# Altium integrated library AMCC PowerPC 405.IntLib: 46 symbols (part 7 of 12)
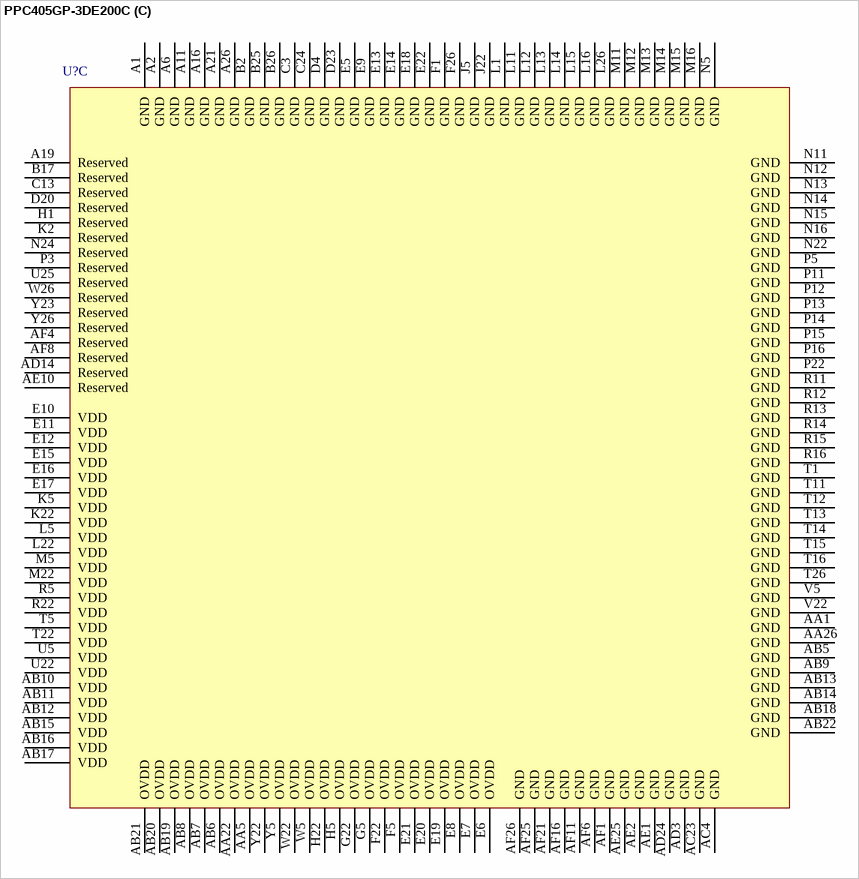
[diagram p124: symbol PPC405GP-3DE200C]

## PPC405GP-3DE200C
designator U?
PowerPC 405GP Embedded Processor, 200MHz, 27mm, 456 Ball E-PBGA; Published: 6-Oct-2005; LatestRevisionDate: 13-Apr-2006; LatestRevisionNote: IPC-7351 Footprint Added.; DatasheetVersion: rev2.01, Jan-2005; PackageVersion: Aug-2005; PackageReference: E-PBGA456_60; Publisher: Altium Limited; PackageDescription: 456-Ball Enhanced Plastic Ball Grid Array; ComponentLink1Description: Manufacturer Link; ComponentLink1URL: http://www.amcc.com/; ComponentLink2Description: Datasheet; ComponentLink2URL: https://www.amcc.com/MyAMCC/retrieveDocument/PowerPC/405GP_GPR/PPC405GP_DS2004__v2_01.pdf
footprint E-PBGA456_60 (BGA, 456-Leads, Body 27x27mm, Pitch 1mm)
3D model PPC405GP-E-PBGA456 (456-Ball Enhanced Plastic Ball Grid Array)
part A pins: A17 PCIAD0 (io), A18 PCIAD3 (io), A20 PCIAD7 (io), A22 GPIO3[TS1O] (io), A23 PCIAD9 (io), A24 ~{PCIReq}3 (in), A25 SysClk (in), AA2 MemData23 (io), AA3 DQM3 (out), AA4 MemData22 (io), AA23 MemClkOut1 (out), AB1 MemData24 (io), AB2 MemData21 (io), AB23 ~{CAS} (out), AB24 BA0 (out), AB25 ClkEn0 (out), AB26 ~{Halt} (in), AC5 MemData19 (io), AC6 DQM2 (out), AC8 MemData12 (io), AC10 DQM1 (out), AC11 MemData3 (io), AC12 DQM0 (out), AC13 MemData0 (io), AC14 ~{BankSel}3 (out), AC15 DQMCB (out), AC16 ~{WE} (out), AC17 MemAddr12 (out), AC18 MemAddr9 (out), AC19 MemAddr6 (out), AC21 MemAddr1 (out), AC22 TMS (in), AC24 BA1 (out), AC25 ClkEn1 (out), AC26 MemClkOut0 (out), AD1 MemData20 (io), AD4 MemData18 (io), AD5 MemData17 (io), AD7 MemData13 (io), AD8 MemData10 (io), AD9 MemData8 (io), AD10 MemData6 (io), AD11 MemData2 (io), AD12 ECC7 (io), AD13 ECC3 (io), AD17 ~{BankSel}0 (out), AD18 MemAddr11 (out), AD19 MemAddr8 (out), AD21 MemAddr3 (out), AD22 TCK (in), AD23 TDO (out), AD25 SysErr (out), AE4 MemData16 (io), AE5 MemData15 (io), AE6 MemData14 (io), AE9 MemData9 (io), AE11 MemData5 (io), AE12 MemData1 (io), AE13 ECC6 (io), AE14 ECC0 (io), AE15 ~{BankSel}2 (out), AE19 MemAddr7 (out), AE20 MemAddr5 (out), AE21 MemAddr2 (out), AE22 MemAddr0 (out), AE24 TDI (in), AE26 ~{TRS}T (in), AF7 MemData11 (io), AF9 MemData7 (io), AF10 MemData4 (io), AF12 ECC5 (io), AF13 ECC4 (io), AF14 ECC2 (io), AF15 ECC1 (io), AF17 ~{BankSel}1 (out), AF18 GPIO4[TS2O] (io), AF19 MemAddr10 (out), AF22 MemAddr4 (out), AF24 ~{RAS} (out), B16 PCIAD1 (io), B18 PCIAD6 (io), B19 PCIReq2 (in), B20 PCIClk (in), B21 PCIAD8 (io), B22 PCIAD11 (io), B23 PCIAD12 (io), B24 ~{PCIRese}t (out), C17 PCIAD2 (io), C18 PCIAD5 (io), C19 ~{PCIReq}0[~{Gnt}] (in), C20 GPIO2[TS2E] (io), C21 ~{PCIReq}1 (in), C22 PCIAD13 (io), C23 ~{PCIINT}[PerWE] (out), C25 RcvrInh (in), C26 PCIAD14 (io), D17 PCIAD4 (io), D18 GPIO1[TS1E] (io), D19 PCIC0[~{BE0}] (io), D21 PCIAD10 (io), D22 ~{SysRese}t (io), D24 TmrClk (in), D25 AVDD (in), D26 ~{TestEn} (in), E23 DrvrInh2 (in), E24 DrvrInh1 (in), E26 PCIParity (io), F23 ~{PCIGnt2} (out), F24 PCIC1[~{BE1}] (io), F25 PCIAD15 (io), G23 ~{PCIReq}4 (in), G24 ~{PCISErr} (io), G25 ~{PCIPEr}r (io), G26 ~{PCITRDY} (io), H23 ~{PCISto}p (io), H25 ~{PCIDevSe}l (io), H26 ~{PCIGnt}3 (out), J23 ~{PCIIRD}Y (io), J24 ~{PCIFram}e (io), J25 ~{PCIReq5} (in), K24 PCIC2[~{BE2}] (io), K26 PCIAD16 (io), L23 PCIAD17 (io), M23 PCIAD19 (io), M24 ~{PCIGnt}5 (out), M25 PCIAD18 (io), M26 PCIAD21 (io), N23 ~{PCIGnt}4 (out), N25 PCIAD20 (io), N26 PCIAD22 (io), P23 PCIAD26 (io), P24 PCIAD23 (io), P26 PCIIDSel (in), R23 PCIAD25 (io), R24 PCIAD24 (io), R25 PCIAD27 (io), R26 PCIC3[~{BE3}] (io), T23 ~{PCIGnt1} (out), T24 PCIAD28 (io), T25 PCIAD30 (io), U23 ~{PCIGnt0}[~{Re}q] (out), U26 PCIAD29 (io), V3 MemData31 (io), V4 MemData29 (io), V26 PCIAD31 (io), W1 MemData30 (io), W2 MemData27 (io), W3 MemData28 (io), W4 MemData26 (io), Y2 MemData25 (io)
part B pins: A3 PerAddr1 (io), A4 ~{PerCS3}[GPIO12] (io), A5 PerAddr8 (io), A7 DMAReq3 (in), A8 PerAddr15 (io), A9 ~{PerCS6}[GPIO15] (io), A10 PerAddr19 (io), A12 PerAddr25 (io), A13 PerAddr26 (io), A14 PerAddr28 (io), A15 PerAddr29 (io), AA24 IRQ6[GPIO23] (io), AA25 PHYCol (in), AB3 GPIO9[TrcClk] (io), AB4 ~{UART0}_~{CTS} (in), AC1 UART1_Rx (in), AC2 UART1_Tx (out), AC3 ~{UART1_CT}S/~{UART1}_~{DS}R (in), AC7 GPIO8[TS6] (io), AC9 GPIO5[TS3] (io), AC20 PHYRxD2 (in), AD2 ~{UART1_DT}R/~{UART1}_~{RT}S (out), AD6 IICSCL (io), AD15 ~{UART0_R}I (in), AD16 ~{UART0_RT}S (out), AD20 PHYRxD3 (in), AD26 EMCMDIO[PHYMDIO] (io), AE3 ~{UART0_DS}R (in), AE7 IICSDA (io), AE8 GPIO6[TS4] (io), AE16 UART0_Rx (in), AE17 UARTSerClk (in), AE18 ~{UART0}_~{DC}D (in), AE23 PHYRxD0 (in), AF2 ~{UART0_DT}R (out), AF3 UART0_Tx (out), AF5 GPIO7[TS5] (io), AF20 PHYRxClk (in), AF23 PHYRxD1 (in), B1 PerErr (in), B3 ~{PerCS}0 (out), B4 PerAddr2 (io), B5 PerAddr3 (io), B6 PerAddr5 (io), B7 PerAddr9 (io), B8 PerAddr12 (io), B9 ~{PerCS}4[GPIO13] (io), B10 ~{PerCS5}[GPIO14] (io), B11 ~{PerCS7}[GPIO16] (io), B12 PerAddr21 (io), B13 PerAddr24 (io), B14 DMAAck2 (out), B15 DMAAck1 (out), C1 PerR/~{W} (io), C2 ~{PerOE} (out), C4 ~{PerCS}1[GPIO10] (io), C5 ~{PerCS}2[GPIO11] (io), C6 PerAddr6 (io), C7 PerAddr10 (io), C8 PerAddr13 (io), C9 PerAddr16 (io), C10 PerAddr18 (io), C11 DMAReq2 (in), C12 DMAAck3 (out), C14 PerAddr27 (io), C15 PerAddr30 (io), C16 DMAReq0 (in), D1 ~{PerWBE}3 (io), D2 ~{PerWBE}0 (io), D3 PerPar0 (io), D5 PerAddr0 (io), D6 PerAddr4 (io), D7 PerAddr7 (io), D8 PerAddr11 (io), D9 PerAddr14 (io), D10 PerAddr17 (io), D11 PerAddr20 (io), D12 PerAddr23 (io), D13 PerAddr22 (io), D14 DMAReq1 (in), D15 PerAddr31 (io), D16 DMAAck0 (out), E1 PerPar3 (io), E2 ~{PerWBE1} (io), E3 PerReady (in), E4 PerClk (out), E25 PHYTxClk (in), F2 ~{PerBLast} (io), F3 EOT0/TC0 (io), F4 ~{PerWBE}2 (io), G1 PerData29 (io), G2 EOT1/TC1 (io), G3 PerPar2 (io), G4 PerPar1 (io), H2 PerData30 (io), H3 PerData28 (io), H4 PerData31 (io), H24 EMCMDClk (out), J1 PerData23 (io), J2 PerData26 (io), J3 PerData25 (io), J4 PerData27 (io), J26 EMCTxD0 (out), K1 PerData20 (io), K3 PerData22 (io), K4 PerData24 (io), K23 EMCTxEn (out), K25 EMCTxErr (out), L2 PerData21 (io), L3 PerData18 (io), L4 PerData19 (io), L24 EMCTxD2 (out), L25 EMCTxD1 (out), M1 PerData12 (io), M2 PerData17 (io), M3 PerData14 (io), M4 PerData15 (io), N1 PerData11 (io), N2 PerData13 (io), N3 PerData10 (io), N4 PerData16 (io), P1 PerData9 (io), P2 PerData7 (io), P4 PerData5 (io), P25 EMCTxD3 (out), R1 PerData8 (io), R2 PerData4 (io), R3 BusReq (out), R4 PerData6 (io), T2 HoldPri (in), T3 ~{ExtRese}t (out), T4 PerData3 (io), U1 PerData2 (io), U2 HoldAck (out), U3 PerData1 (io), U4 PerData0 (io), U24 PHYRxErr (in), V1 HoldReq (in), V2 EOT2/TC2 (io), V23 IRQ1[GPIO18] (io), V24 PHYRxDV (in), V25 IRQ0[GPIO17] (io), W23 PHYCrS (in), W24 IRQ2[GPIO19] (io), W25 IRQ3[GPIO20] (io), Y1 EOT3/TC3 (io), Y3 ~{ExtAck} (out), Y4 ~{ExtReq} (in), Y24 IRQ4[GPIO21] (io), Y25 IRQ5[GPIO22] (io)
part C pins: A1 GND (power), A2 GND (power), A6 GND (power), A11 GND (power), A16 GND (power), A19 Reserved, A21 GND (power), A26 GND (power), AA1 GND (power), AA5 OVDD (power), AA22 OVDD (power), AA26 GND (power), AB5 GND (power), AB6 OVDD (power), AB7 OVDD (power), AB8 OVDD (power), AB9 GND (power), AB10 VDD (power), AB11 VDD (power), AB12 VDD (power), AB13 GND (power), AB14 GND (power), AB15 VDD (power), AB16 VDD (power), AB17 VDD (power), AB18 GND (power), AB19 OVDD (power), AB20 OVDD (power), AB21 OVDD (power), AB22 GND (power), AC4 GND (power), AC23 GND (power), AD3 GND (power), AD14 Reserved, AD24 GND (power), AE1 GND (power), AE2 GND (power), AE10 Reserved, AE25 GND (power), AF1 GND (power), AF4 Reserved, AF6 GND (power), AF8 Reserved, AF11 GND (power), AF16 GND (power), AF21 GND (power), AF25 GND (power), AF26 GND (power), B2 GND (power), B17 Reserved, B25 GND (power), B26 GND (power), C3 GND (power), C13 Reserved, C24 GND (power), D4 GND (power), D20 Reserved, D23 GND (power), E5 GND (power), E6 OVDD (power), E7 OVDD (power), E8 OVDD (power), E9 GND (power), E10 VDD (power), E11 VDD (power), E12 VDD (power), E13 GND (power), E14 GND (power), E15 VDD (power), E16 VDD (power), E17 VDD (power), E18 GND (power), E19 OVDD (power), E20 OVDD (power), E21 OVDD (power), E22 GND (power), F1 GND (power), F5 OVDD (power), F22 OVDD (power), F26 GND (power), G5 OVDD (power), G22 OVDD (power), H1 Reserved, H5 OVDD (power), H22 OVDD (power), J5 GND (power), J22 GND (power), K2 Reserved, K5 VDD (power), K22 VDD (power), L1 GND (power), L5 VDD (power), L11 GND (power) "Thermal Balls", L12 GND (power) "Thermal Balls", L13 GND (power) "Thermal Balls", L14 GND (power) "Thermal Balls", L15 GND (power) "Thermal Balls", L16 GND (power) "Thermal Balls", L22 VDD (power), L26 GND (power), M5 VDD (power), M11 GND (power) "Thermal Balls", M12 GND (power) "Thermal Balls", M13 GND (power) "Thermal Balls", M14 GND (power) "Thermal Balls", M15 GND (power) "Thermal Balls", M16 GND (power) "Thermal Balls", M22 VDD (power), N5 GND (power), N11 GND (power) "Thermal Balls", N12 GND (power) "Thermal Balls", N13 GND (power) "Thermal Balls", N14 GND (power) "Thermal Balls", N15 GND (power) "Thermal Balls", N16 GND (power) "Thermal Balls", N22 GND (power), N24 Reserved, P3 Reserved, P5 GND (power), P11 GND (power) "Thermal Balls", P12 GND (power) "Thermal Balls", P13 GND (power) "Thermal Balls", P14 GND (power) "Thermal Balls", P15 GND (power) "Thermal Balls", P16 GND (power) "Thermal Balls", P22 GND (power), R5 VDD (power), R11 GND (power) "Thermal Balls", R12 GND (power) "Thermal Balls", R13 GND (power) "Thermal Balls", R14 GND (power) "Thermal Balls", R15 GND (power) "Thermal Balls", R16 GND (power) "Thermal Balls", R22 VDD (power), T1 GND (power), T5 VDD (power), T11 GND (power) "Thermal Balls", T12 GND (power) "Thermal Balls", T13 GND (power) "Thermal Balls", T14 GND (power) "Thermal Balls", T15 GND (power) "Thermal Balls", T16 GND (power) "Thermal Balls", T22 VDD (power), T26 GND (power), U5 VDD (power), U22 VDD (power), U25 Reserved, V5 GND (power), V22 GND (power), W5 OVDD (power), W22 OVDD (power), W26 Reserved, Y5 OVDD (power), Y22 OVDD (power), Y23 Reserved, Y26 Reserved

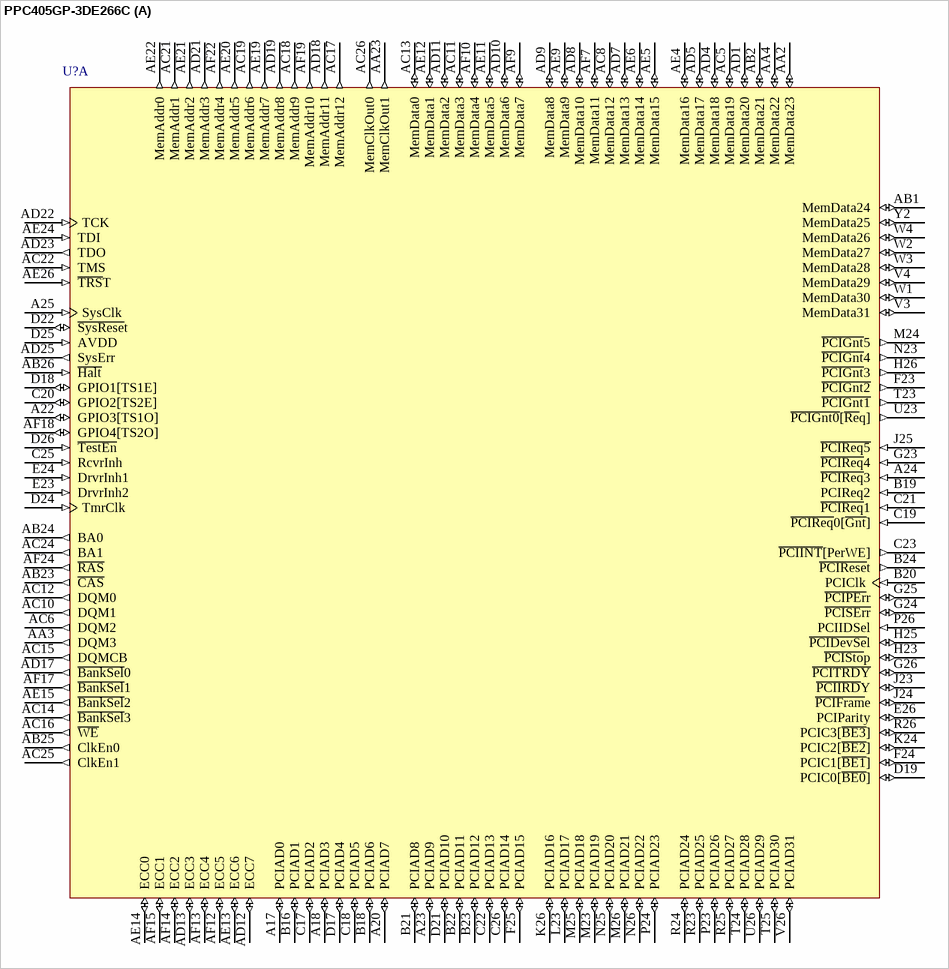
[diagram p56: symbol PPC405GP-3DE266C]

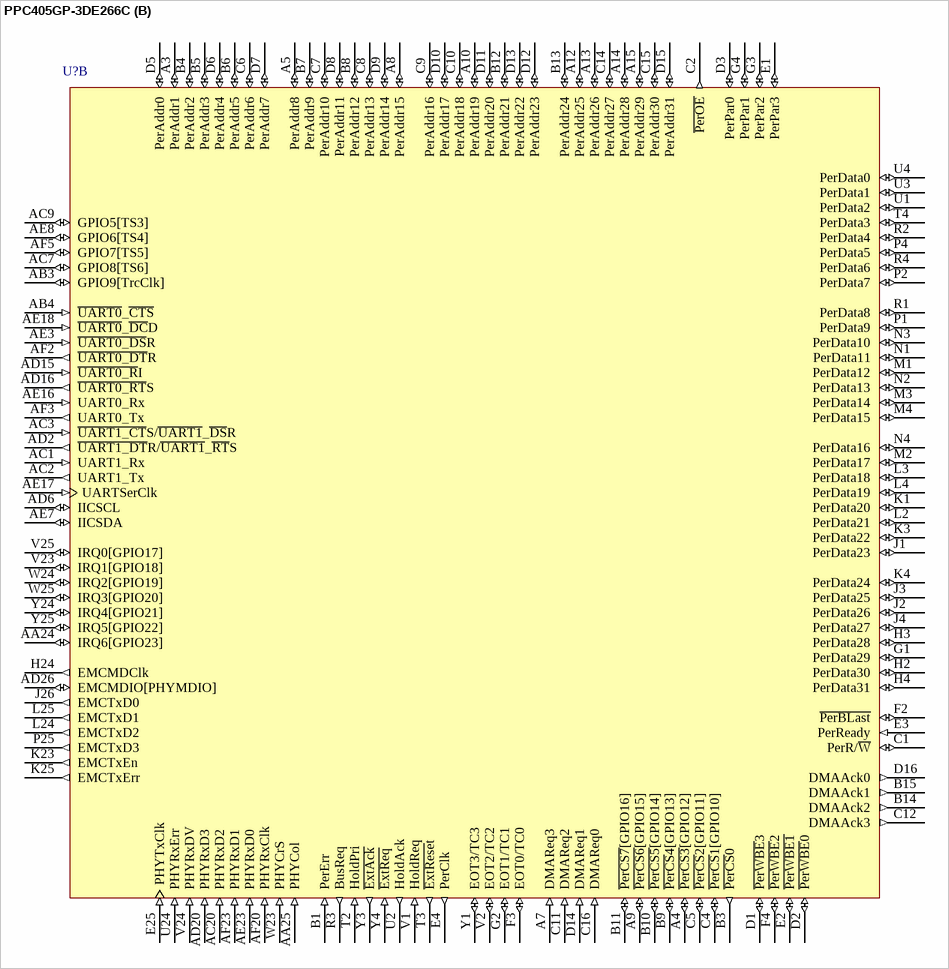
[diagram p57: symbol PPC405GP-3DE266C]

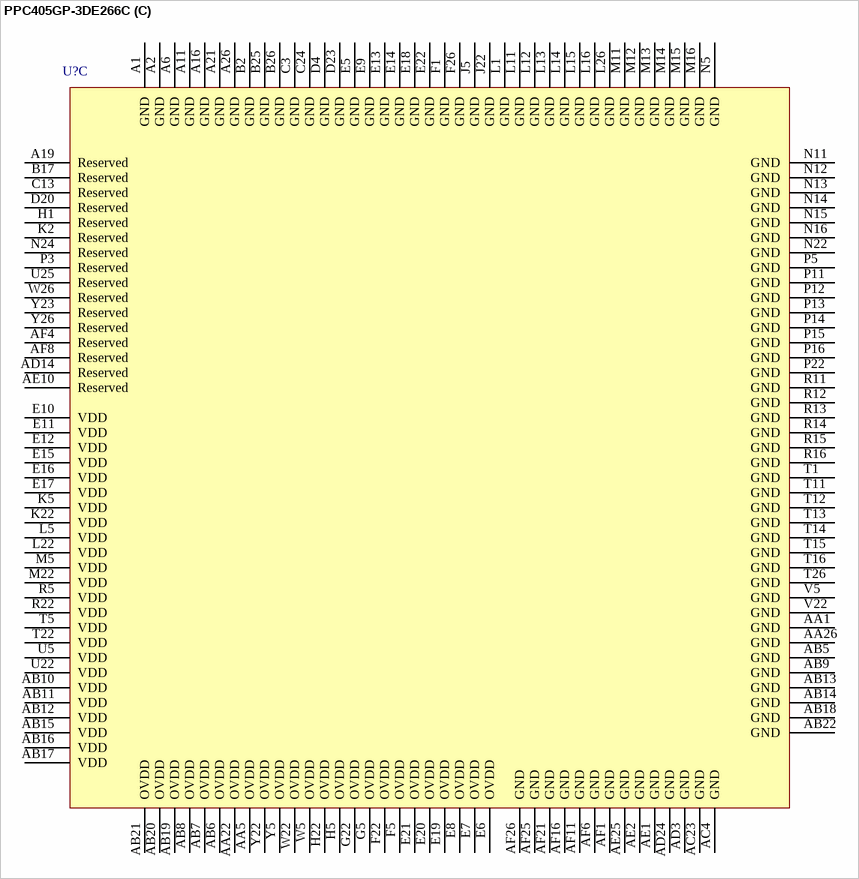
[diagram p58: symbol PPC405GP-3DE266C]

## PPC405GP-3DE266C
designator U?
PowerPC 405GP Embedded Processor, 266MHz, 27mm, 456 Ball E-PBGA; Published: 6-Oct-2005; LatestRevisionDate: 13-Apr-2006; LatestRevisionNote: IPC-7351 Footprint Added.; DatasheetVersion: rev2.01, Jan-2005; PackageVersion: Aug-2005; PackageReference: E-PBGA456_60; Publisher: Altium Limited; PackageDescription: 456-Ball Enhanced Plastic Ball Grid Array; ComponentLink1Description: Manufacturer Link; ComponentLink1URL: http://www.amcc.com/; ComponentLink2Description: Datasheet; ComponentLink2URL: https://www.amcc.com/MyAMCC/retrieveDocument/PowerPC/405GP_GPR/PPC405GP_DS2004__v2_01.pdf
footprint E-PBGA456_60 (BGA, 456-Leads, Body 27x27mm, Pitch 1mm)
3D model PPC405GP-E-PBGA456 (456-Ball Enhanced Plastic Ball Grid Array)
part A pins: A17 PCIAD0 (io), A18 PCIAD3 (io), A20 PCIAD7 (io), A22 GPIO3[TS1O] (io), A23 PCIAD9 (io), A24 ~{PCIReq}3 (in), A25 SysClk (in), AA2 MemData23 (io), AA3 DQM3 (out), AA4 MemData22 (io), AA23 MemClkOut1 (out), AB1 MemData24 (io), AB2 MemData21 (io), AB23 ~{CAS} (out), AB24 BA0 (out), AB25 ClkEn0 (out), AB26 ~{Halt} (in), AC5 MemData19 (io), AC6 DQM2 (out), AC8 MemData12 (io), AC10 DQM1 (out), AC11 MemData3 (io), AC12 DQM0 (out), AC13 MemData0 (io), AC14 ~{BankSel}3 (out), AC15 DQMCB (out), AC16 ~{WE} (out), AC17 MemAddr12 (out), AC18 MemAddr9 (out), AC19 MemAddr6 (out), AC21 MemAddr1 (out), AC22 TMS (in), AC24 BA1 (out), AC25 ClkEn1 (out), AC26 MemClkOut0 (out), AD1 MemData20 (io), AD4 MemData18 (io), AD5 MemData17 (io), AD7 MemData13 (io), AD8 MemData10 (io), AD9 MemData8 (io), AD10 MemData6 (io), AD11 MemData2 (io), AD12 ECC7 (io), AD13 ECC3 (io), AD17 ~{BankSel}0 (out), AD18 MemAddr11 (out), AD19 MemAddr8 (out), AD21 MemAddr3 (out), AD22 TCK (in), AD23 TDO (out), AD25 SysErr (out), AE4 MemData16 (io), AE5 MemData15 (io), AE6 MemData14 (io), AE9 MemData9 (io), AE11 MemData5 (io), AE12 MemData1 (io), AE13 ECC6 (io), AE14 ECC0 (io), AE15 ~{BankSel}2 (out), AE19 MemAddr7 (out), AE20 MemAddr5 (out), AE21 MemAddr2 (out), AE22 MemAddr0 (out), AE24 TDI (in), AE26 ~{TRS}T (in), AF7 MemData11 (io), AF9 MemData7 (io), AF10 MemData4 (io), AF12 ECC5 (io), AF13 ECC4 (io), AF14 ECC2 (io), AF15 ECC1 (io), AF17 ~{BankSel}1 (out), AF18 GPIO4[TS2O] (io), AF19 MemAddr10 (out), AF22 MemAddr4 (out), AF24 ~{RAS} (out), B16 PCIAD1 (io), B18 PCIAD6 (io), B19 PCIReq2 (in), B20 PCIClk (in), B21 PCIAD8 (io), B22 PCIAD11 (io), B23 PCIAD12 (io), B24 ~{PCIRese}t (out), C17 PCIAD2 (io), C18 PCIAD5 (io), C19 ~{PCIReq}0[~{Gnt}] (in), C20 GPIO2[TS2E] (io), C21 ~{PCIReq}1 (in), C22 PCIAD13 (io), C23 ~{PCIINT}[PerWE] (out), C25 RcvrInh (in), C26 PCIAD14 (io), D17 PCIAD4 (io), D18 GPIO1[TS1E] (io), D19 PCIC0[~{BE0}] (io), D21 PCIAD10 (io), D22 ~{SysRese}t (io), D24 TmrClk (in), D25 AVDD (in), D26 ~{TestEn} (in), E23 DrvrInh2 (in), E24 DrvrInh1 (in), E26 PCIParity (io), F23 ~{PCIGnt2} (out), F24 PCIC1[~{BE1}] (io), F25 PCIAD15 (io), G23 ~{PCIReq}4 (in), G24 ~{PCISErr} (io), G25 ~{PCIPEr}r (io), G26 ~{PCITRDY} (io), H23 ~{PCISto}p (io), H25 ~{PCIDevSe}l (io), H26 ~{PCIGnt}3 (out), J23 ~{PCIIRD}Y (io), J24 ~{PCIFram}e (io), J25 ~{PCIReq5} (in), K24 PCIC2[~{BE2}] (io), K26 PCIAD16 (io), L23 PCIAD17 (io), M23 PCIAD19 (io), M24 ~{PCIGnt}5 (out), M25 PCIAD18 (io), M26 PCIAD21 (io), N23 ~{PCIGnt}4 (out), N25 PCIAD20 (io), N26 PCIAD22 (io), P23 PCIAD26 (io), P24 PCIAD23 (io), P26 PCIIDSel (in), R23 PCIAD25 (io), R24 PCIAD24 (io), R25 PCIAD27 (io), R26 PCIC3[~{BE3}] (io), T23 ~{PCIGnt1} (out), T24 PCIAD28 (io), T25 PCIAD30 (io), U23 ~{PCIGnt0}[~{Re}q] (out), U26 PCIAD29 (io), V3 MemData31 (io), V4 MemData29 (io), V26 PCIAD31 (io), W1 MemData30 (io), W2 MemData27 (io), W3 MemData28 (io), W4 MemData26 (io), Y2 MemData25 (io)
part B pins: A3 PerAddr1 (io), A4 ~{PerCS3}[GPIO12] (io), A5 PerAddr8 (io), A7 DMAReq3 (in), A8 PerAddr15 (io), A9 ~{PerCS6}[GPIO15] (io), A10 PerAddr19 (io), A12 PerAddr25 (io), A13 PerAddr26 (io), A14 PerAddr28 (io), A15 PerAddr29 (io), AA24 IRQ6[GPIO23] (io), AA25 PHYCol (in), AB3 GPIO9[TrcClk] (io), AB4 ~{UART0}_~{CTS} (in), AC1 UART1_Rx (in), AC2 UART1_Tx (out), AC3 ~{UART1_CT}S/~{UART1}_~{DS}R (in), AC7 GPIO8[TS6] (io), AC9 GPIO5[TS3] (io), AC20 PHYRxD2 (in), AD2 ~{UART1_DT}R/~{UART1}_~{RT}S (out), AD6 IICSCL (io), AD15 ~{UART0_R}I (in), AD16 ~{UART0_RT}S (out), AD20 PHYRxD3 (in), AD26 EMCMDIO[PHYMDIO] (io), AE3 ~{UART0_DS}R (in), AE7 IICSDA (io), AE8 GPIO6[TS4] (io), AE16 UART0_Rx (in), AE17 UARTSerClk (in), AE18 ~{UART0}_~{DC}D (in), AE23 PHYRxD0 (in), AF2 ~{UART0_DT}R (out), AF3 UART0_Tx (out), AF5 GPIO7[TS5] (io), AF20 PHYRxClk (in), AF23 PHYRxD1 (in), B1 PerErr (in), B3 ~{PerCS}0 (out), B4 PerAddr2 (io), B5 PerAddr3 (io), B6 PerAddr5 (io), B7 PerAddr9 (io), B8 PerAddr12 (io), B9 ~{PerCS}4[GPIO13] (io), B10 ~{PerCS5}[GPIO14] (io), B11 ~{PerCS7}[GPIO16] (io), B12 PerAddr21 (io), B13 PerAddr24 (io), B14 DMAAck2 (out), B15 DMAAck1 (out), C1 PerR/~{W} (io), C2 ~{PerOE} (out), C4 ~{PerCS}1[GPIO10] (io), C5 ~{PerCS}2[GPIO11] (io), C6 PerAddr6 (io), C7 PerAddr10 (io), C8 PerAddr13 (io), C9 PerAddr16 (io), C10 PerAddr18 (io), C11 DMAReq2 (in), C12 DMAAck3 (out), C14 PerAddr27 (io), C15 PerAddr30 (io), C16 DMAReq0 (in), D1 ~{PerWBE}3 (io), D2 ~{PerWBE}0 (io), D3 PerPar0 (io), D5 PerAddr0 (io), D6 PerAddr4 (io), D7 PerAddr7 (io), D8 PerAddr11 (io), D9 PerAddr14 (io), D10 PerAddr17 (io), D11 PerAddr20 (io), D12 PerAddr23 (io), D13 PerAddr22 (io), D14 DMAReq1 (in), D15 PerAddr31 (io), D16 DMAAck0 (out), E1 PerPar3 (io), E2 ~{PerWBE1} (io), E3 PerReady (in), E4 PerClk (out), E25 PHYTxClk (in), F2 ~{PerBLast} (io), F3 EOT0/TC0 (io), F4 ~{PerWBE}2 (io), G1 PerData29 (io), G2 EOT1/TC1 (io), G3 PerPar2 (io), G4 PerPar1 (io), H2 PerData30 (io), H3 PerData28 (io), H4 PerData31 (io), H24 EMCMDClk (out), J1 PerData23 (io), J2 PerData26 (io), J3 PerData25 (io), J4 PerData27 (io), J26 EMCTxD0 (out), K1 PerData20 (io), K3 PerData22 (io), K4 PerData24 (io), K23 EMCTxEn (out), K25 EMCTxErr (out), L2 PerData21 (io), L3 PerData18 (io), L4 PerData19 (io), L24 EMCTxD2 (out), L25 EMCTxD1 (out), M1 PerData12 (io), M2 PerData17 (io), M3 PerData14 (io), M4 PerData15 (io), N1 PerData11 (io), N2 PerData13 (io), N3 PerData10 (io), N4 PerData16 (io), P1 PerData9 (io), P2 PerData7 (io), P4 PerData5 (io), P25 EMCTxD3 (out), R1 PerData8 (io), R2 PerData4 (io), R3 BusReq (out), R4 PerData6 (io), T2 HoldPri (in), T3 ~{ExtRese}t (out), T4 PerData3 (io), U1 PerData2 (io), U2 HoldAck (out), U3 PerData1 (io), U4 PerData0 (io), U24 PHYRxErr (in), V1 HoldReq (in), V2 EOT2/TC2 (io), V23 IRQ1[GPIO18] (io), V24 PHYRxDV (in), V25 IRQ0[GPIO17] (io), W23 PHYCrS (in), W24 IRQ2[GPIO19] (io), W25 IRQ3[GPIO20] (io), Y1 EOT3/TC3 (io), Y3 ~{ExtAck} (out), Y4 ~{ExtReq} (in), Y24 IRQ4[GPIO21] (io), Y25 IRQ5[GPIO22] (io)
part C pins: A1 GND (power), A2 GND (power), A6 GND (power), A11 GND (power), A16 GND (power), A19 Reserved, A21 GND (power), A26 GND (power), AA1 GND (power), AA5 OVDD (power), AA22 OVDD (power), AA26 GND (power), AB5 GND (power), AB6 OVDD (power), AB7 OVDD (power), AB8 OVDD (power), AB9 GND (power), AB10 VDD (power), AB11 VDD (power), AB12 VDD (power), AB13 GND (power), AB14 GND (power), AB15 VDD (power), AB16 VDD (power), AB17 VDD (power), AB18 GND (power), AB19 OVDD (power), AB20 OVDD (power), AB21 OVDD (power), AB22 GND (power), AC4 GND (power), AC23 GND (power), AD3 GND (power), AD14 Reserved, AD24 GND (power), AE1 GND (power), AE2 GND (power), AE10 Reserved, AE25 GND (power), AF1 GND (power), AF4 Reserved, AF6 GND (power), AF8 Reserved, AF11 GND (power), AF16 GND (power), AF21 GND (power), AF25 GND (power), AF26 GND (power), B2 GND (power), B17 Reserved, B25 GND (power), B26 GND (power), C3 GND (power), C13 Reserved, C24 GND (power), D4 GND (power), D20 Reserved, D23 GND (power), E5 GND (power), E6 OVDD (power), E7 OVDD (power), E8 OVDD (power), E9 GND (power), E10 VDD (power), E11 VDD (power), E12 VDD (power), E13 GND (power), E14 GND (power), E15 VDD (power), E16 VDD (power), E17 VDD (power), E18 GND (power), E19 OVDD (power), E20 OVDD (power), E21 OVDD (power), E22 GND (power), F1 GND (power), F5 OVDD (power), F22 OVDD (power), F26 GND (power), G5 OVDD (power), G22 OVDD (power), H1 Reserved, H5 OVDD (power), H22 OVDD (power), J5 GND (power), J22 GND (power), K2 Reserved, K5 VDD (power), K22 VDD (power), L1 GND (power), L5 VDD (power), L11 GND (power) "Thermal Balls", L12 GND (power) "Thermal Balls", L13 GND (power) "Thermal Balls", L14 GND (power) "Thermal Balls", L15 GND (power) "Thermal Balls", L16 GND (power) "Thermal Balls", L22 VDD (power), L26 GND (power), M5 VDD (power), M11 GND (power) "Thermal Balls", M12 GND (power) "Thermal Balls", M13 GND (power) "Thermal Balls", M14 GND (power) "Thermal Balls", M15 GND (power) "Thermal Balls", M16 GND (power) "Thermal Balls", M22 VDD (power), N5 GND (power), N11 GND (power) "Thermal Balls", N12 GND (power) "Thermal Balls", N13 GND (power) "Thermal Balls", N14 GND (power) "Thermal Balls", N15 GND (power) "Thermal Balls", N16 GND (power) "Thermal Balls", N22 GND (power), N24 Reserved, P3 Reserved, P5 GND (power), P11 GND (power) "Thermal Balls", P12 GND (power) "Thermal Balls", P13 GND (power) "Thermal Balls", P14 GND (power) "Thermal Balls", P15 GND (power) "Thermal Balls", P16 GND (power) "Thermal Balls", P22 GND (power), R5 VDD (power), R11 GND (power) "Thermal Balls", R12 GND (power) "Thermal Balls", R13 GND (power) "Thermal Balls", R14 GND (power) "Thermal Balls", R15 GND (power) "Thermal Balls", R16 GND (power) "Thermal Balls", R22 VDD (power), T1 GND (power), T5 VDD (power), T11 GND (power) "Thermal Balls", T12 GND (power) "Thermal Balls", T13 GND (power) "Thermal Balls", T14 GND (power) "Thermal Balls", T15 GND (power) "Thermal Balls", T16 GND (power) "Thermal Balls", T22 VDD (power), T26 GND (power), U5 VDD (power), U22 VDD (power), U25 Reserved, V5 GND (power), V22 GND (power), W5 OVDD (power), W22 OVDD (power), W26 Reserved, Y5 OVDD (power), Y22 OVDD (power), Y23 Reserved, Y26 Reserved

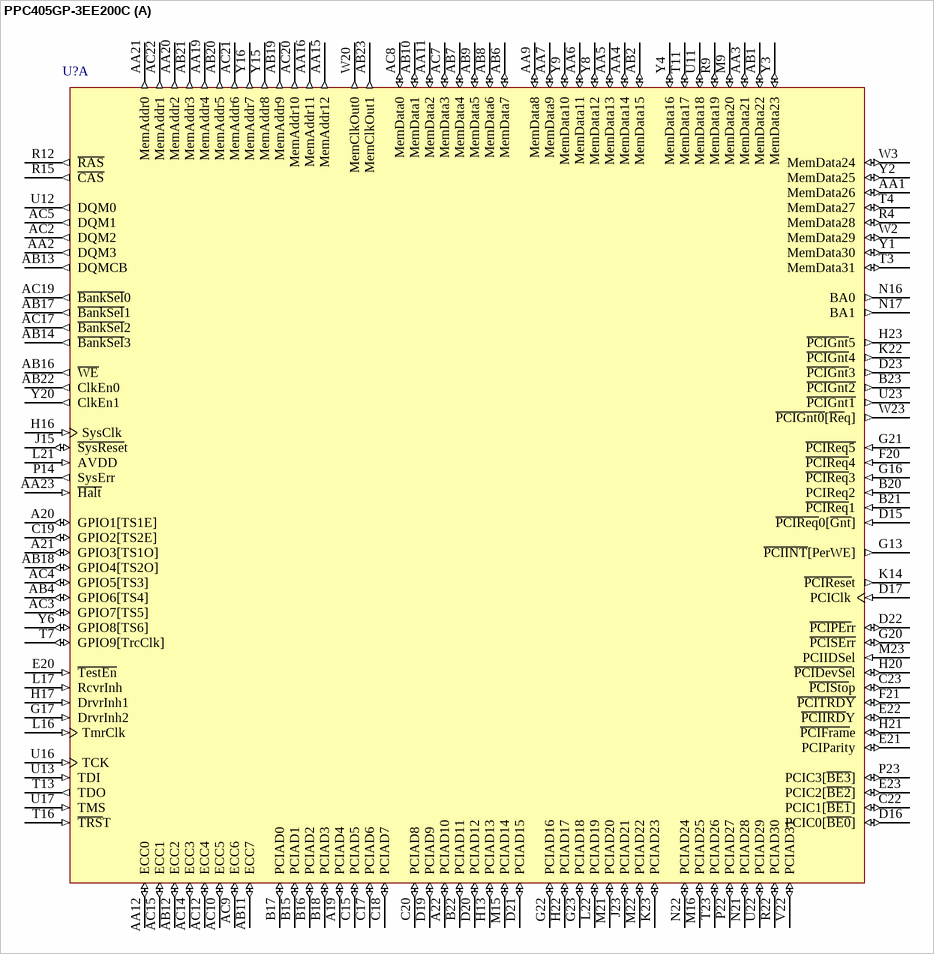
[diagram p59: symbol PPC405GP-3EE200C]

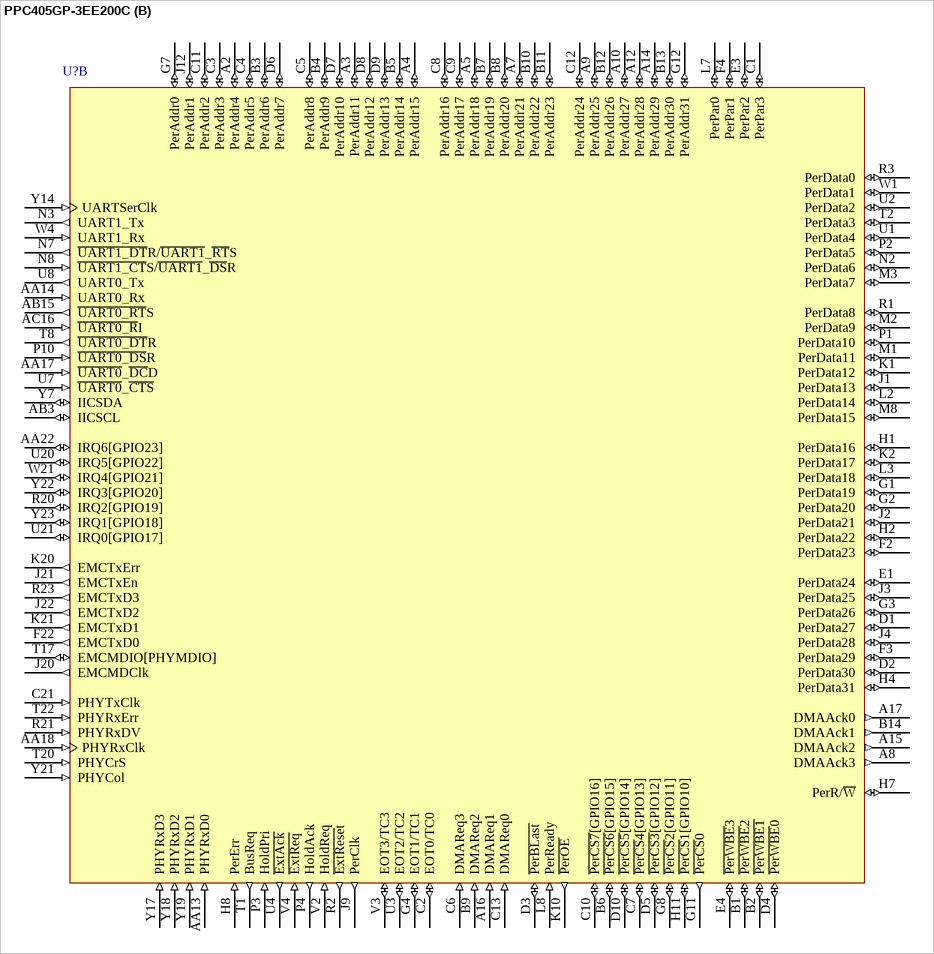
[diagram p60: symbol PPC405GP-3EE200C]

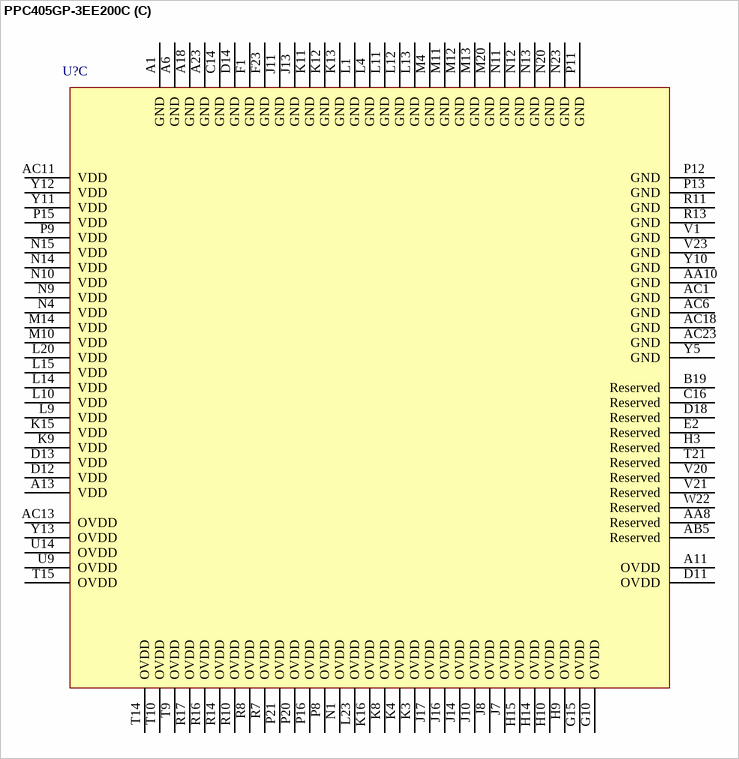
[diagram p61: symbol PPC405GP-3EE200C]

## PPC405GP-3EE200C
designator U?
PowerPC 405GP Embedded Processor, 200MHz, 25mm, 413 Ball E-PBGA; Published: 6-Oct-2005; LatestRevisionDate: 13-Apr-2006; LatestRevisionNote: IPC-7351 Footprint Added.; DatasheetVersion: rev2.01, Jan-2005; PackageVersion: Jan-2005; PackageReference: E-PBGA413; Publisher: Altium Limited; PackageDescription: 413-Ball Enhanced Plastic Ball Grid Array; ComponentLink1Description: Manufacturer Link; ComponentLink1URL: http://www.amcc.com/; ComponentLink2Description: Datasheet; ComponentLink2URL: https://www.amcc.com/MyAMCC/retrieveDocument/PowerPC/405GP_GPR/PPC405GP_DS2004__v2_01.pdf
footprint E-PBGA413 (BGA, 413-Leads, Body 25x25mm, Pitch 1mm)
3D model PPC405GP-E-PBGA413 (413-Ball Enhanced Plastic Ball Grid Array)
part A pins: A19 PCIAD4 (io), A20 GPIO1[TS1E] (io), A21 GPIO3[TS1O] (io), A22 PCIAD10 (io), AA1 MemData26 (io), AA2 DQM3 (out), AA3 MemData21 (io), AA4 MemData14 (io), AA5 MemData13 (io), AA6 MemData11 (io), AA7 MemData9 (io), AA9 MemData8 (io), AA11 MemData2 (io), AA12 ECC0 (io), AA15 MemAddr12 (out), AA16 MemAddr11 (out), AA19 MemAddr4 (out), AA20 MemAddr2 (out), AA21 MemAddr0 (out), AA23 ~{Halt} (in), AB1 MemData22 (io), AB2 MemData15 (io), AB4 GPIO6[TS4] (io), AB6 MemData7 (io), AB7 MemData4 (io), AB8 MemData6 (io), AB9 MemData5 (io), AB10 MemData1 (io), AB11 ECC7 (io), AB12 ECC2 (io), AB13 DQMCB (out), AB14 ~{BankSel}3 (out), AB16 ~{WE} (out), AB17 ~{BankSel}1 (out), AB18 GPIO4[TS2O] (io), AB19 MemAddr9 (out), AB20 MemAddr5 (out), AB21 MemAddr3 (out), AB22 ClkEn0 (out), AB23 MemClkOut1 (out), AC2 DQM2 (out), AC3 GPIO7[TS5] (io), AC4 GPIO5[TS3] (io), AC5 DQM1 (out), AC7 MemData3 (io), AC8 MemData0 (io), AC9 ECC6 (io), AC10 ECC5 (io), AC12 ECC4 (io), AC14 ECC3 (io), AC15 ECC1 (io), AC17 ~{BankSel}2 (out), AC19 ~{BankSel}0 (out), AC20 MemAddr10 (out), AC21 MemAddr6 (out), AC22 MemAddr1 (out), B15 PCIAD1 (io), B16 PCIAD2 (io), B17 PCIAD0 (io), B18 PCIAD3 (io), B20 PCIReq2 (in), B21 ~{PCIReq}1 (in), B22 PCIAD11 (io), B23 ~{PCIGnt2} (out), C15 PCIAD5 (io), C17 PCIAD6 (io), C18 PCIAD7 (io), C19 GPIO2[TS2E] (io), C20 PCIAD8 (io), C22 PCIC1[~{BE1}] (io), C23 ~{PCISto}p (io), D15 ~{PCIReq}0[~{Gnt}] (in), D16 PCIC0[~{BE0}] (io), D17 PCIClk (in), D19 PCIAD9 (io), D20 PCIAD12 (io), D21 PCIAD15 (io), D22 ~{PCIPEr}r (io), D23 ~{PCIGnt}3 (out), E20 ~{TestEn} (in), E21 PCIParity (io), E22 ~{PCIIRD}Y (io), E23 PCIC2[~{BE2}] (io), F20 ~{PCIReq}4 (in), F21 ~{PCITRDY} (io), G13 ~{PCIINT}[PerWE] (out), G16 ~{PCIReq}3 (in), G17 DrvrInh2 (in), G20 ~{PCISErr} (io), G21 ~{PCIReq5} (in), G22 PCIAD16 (io), G23 PCIAD18 (io), H13 PCIAD13 (io), H16 SysClk (in), H17 DrvrInh1 (in), H20 ~{PCIDevSe}l (io), H21 ~{PCIFram}e (io), H22 PCIAD17 (io), H23 ~{PCIGnt}5 (out), J15 ~{SysRese}t (io), J23 PCIAD21 (io), K14 ~{PCIRese}t (out), K22 ~{PCIGnt}4 (out), K23 PCIAD23 (io), L16 TmrClk (in), L17 RcvrInh (in), L21 AVDD (in), L22 PCIAD19 (io), M9 MemData20 (io), M15 PCIAD14 (io), M16 PCIAD25 (io), M21 PCIAD20 (io), M22 PCIAD22 (io), M23 PCIIDSel (in), N16 BA0 (out), N17 BA1 (out), N21 PCIAD28 (io), N22 PCIAD24 (io), P14 SysErr (out), P22 PCIAD27 (io), P23 PCIC3[~{BE3}] (io), R4 MemData28 (io), R9 MemData19 (io), R12 ~{RAS} (out), R15 ~{CAS} (out), R22 PCIAD30 (io), T3 MemData31 (io), T4 MemData27 (io), T7 GPIO9[TrcClk] (io), T11 MemData17 (io), T13 TDO (out), T16 ~{TRS}T (in), T23 PCIAD26 (io), U11 MemData18 (io), U12 DQM0 (out), U13 TDI (in), U16 TCK (in), U17 TMS (in), U22 PCIAD29 (io), U23 ~{PCIGnt1} (out), V22 PCIAD31 (io), W2 MemData29 (io), W3 MemData24 (io), W20 MemClkOut0 (out), W23 ~{PCIGnt0}[~{Re}q] (out), Y1 MemData30 (io), Y2 MemData25 (io), Y3 MemData23 (io), Y4 MemData16 (io), Y6 GPIO8[TS6] (io), Y8 MemData12 (io), Y9 MemData10 (io), Y15 MemAddr8 (out), Y16 MemAddr7 (out), Y20 ClkEn1 (out)
part B pins: A2 PerAddr4 (io), A3 PerAddr11 (io), A4 PerAddr15 (io), A5 PerAddr18 (io), A7 PerAddr21 (io), A8 DMAAck3 (out), A9 PerAddr25 (io), A10 PerAddr27 (io), A12 PerAddr28 (io), A14 PerAddr29 (io), A15 DMAAck2 (out), A16 DMAReq1 (in), A17 DMAAck0 (out), AA13 PHYRxD0 (in), AA14 UART0_Rx (in), AA17 ~{UART0}_~{DC}D (in), AA18 PHYRxClk (in), AA22 IRQ6[GPIO23] (io), AB3 IICSCL (io), AB15 ~{UART0_RT}S (out), AC16 ~{UART0_R}I (in), B1 ~{PerWBE}2 (io), B2 ~{PerWBE1} (io), B3 PerAddr6 (io), B4 PerAddr9 (io), B5 PerAddr14 (io), B6 ~{PerCS6}[GPIO15] (io), B7 PerAddr19 (io), B8 PerAddr20 (io), B9 DMAReq2 (in), B10 PerAddr22 (io), B11 PerAddr23 (io), B12 PerAddr26 (io), B13 PerAddr30 (io), B14 DMAAck1 (out), C1 PerPar3 (io), C2 EOT0/TC0 (io), C3 PerAddr3 (io), C4 PerAddr5 (io), C5 PerAddr8 (io), C6 DMAReq3 (in), C7 ~{PerCS}4[GPIO13] (io), C8 PerAddr16 (io), C9 PerAddr17 (io), C10 ~{PerCS7}[GPIO16] (io), C11 PerAddr2 (io), C12 PerAddr24 (io), C13 DMAReq0 (in), C21 PHYTxClk (in), D1 PerData27 (io), D2 PerData30 (io), D3 ~{PerBLast} (io), D4 ~{PerWBE}0 (io), D5 ~{PerCS3}[GPIO12] (io), D6 PerAddr7 (io), D7 PerAddr10 (io), D8 PerAddr12 (io), D9 PerAddr13 (io), D10 ~{PerCS5}[GPIO14] (io), E1 PerData24 (io), E3 PerPar2 (io), E4 ~{PerWBE}3 (io), F2 PerData23 (io), F3 PerData29 (io), F4 PerPar1 (io), F22 EMCTxD0 (out), G1 PerData19 (io), G2 PerData20 (io), G3 PerData26 (io), G4 EOT1/TC1 (io), G7 PerAddr0 (io), G8 ~{PerCS}2[GPIO11] (io), G11 ~{PerCS}0 (out), G12 PerAddr31 (io), H1 PerData16 (io), H2 PerData22 (io), H4 PerData31 (io), H7 PerR/~{W} (io), H8 PerErr (in), H11 ~{PerCS}1[GPIO10] (io), J1 PerData13 (io), J2 PerData21 (io), J3 PerData25 (io), J4 PerData28 (io), J9 PerClk (out), J12 PerAddr1 (io), J20 EMCMDClk (out), J21 EMCTxEn (out), J22 EMCTxD2 (out), K1 PerData12 (io), K2 PerData17 (io), K10 ~{PerOE} (out), K20 EMCTxErr (out), K21 EMCTxD1 (out), L2 PerData14 (io), L3 PerData18 (io), L7 PerPar0 (io), L8 PerReady (in), M1 PerData11 (io), M2 PerData9 (io), M3 PerData7 (io), M8 PerData15 (io), N2 PerData6 (io), N3 UART1_Tx (out), N7 ~{UART1_DT}R/~{UART1}_~{RT}S (out), N8 ~{UART1_CT}S/~{UART1}_~{DS}R (in), P1 PerData10 (io), P2 PerData5 (io), P3 HoldPri (in), P4 HoldAck (out), P10 ~{UART0_DS}R (in), R1 PerData8 (io), R2 ~{ExtRese}t (out), R3 PerData0 (io), R20 IRQ2[GPIO19] (io), R21 PHYRxDV (in), R23 EMCTxD3 (out), T1 BusReq (out), T2 PerData3 (io), T8 ~{UART0_DT}R (out), T17 EMCMDIO[PHYMDIO] (io), T20 PHYCrS (in), T22 PHYRxErr (in), U1 PerData4 (io), U2 PerData2 (io), U3 EOT2/TC2 (io), U4 ~{ExtAck} (out), U7 ~{UART0}_~{CTS} (in), U8 UART0_Tx (out), U20 IRQ5[GPIO22] (io), U21 IRQ0[GPIO17] (io), V2 HoldReq (in), V3 EOT3/TC3 (io), V4 ~{ExtReq} (in), W1 PerData1 (io), W4 UART1_Rx (in), W21 IRQ4[GPIO21] (io), Y7 IICSDA (io), Y14 UARTSerClk (in), Y17 PHYRxD3 (in), Y18 PHYRxD2 (in), Y19 PHYRxD1 (in), Y21 PHYCol (in), Y22 IRQ3[GPIO20] (io), Y23 IRQ1[GPIO18] (io)
part C pins: A1 GND (power), A6 GND (power), A11 OVDD (power), A13 VDD (power), A18 GND (power), A23 GND (power), AA8 Reserved, AA10 GND (power), AB5 Reserved, AC1 GND (power), AC6 GND (power), AC11 VDD (power), AC13 OVDD (power), AC18 GND (power), AC23 GND (power), B19 Reserved, C14 GND (power), C16 Reserved, D11 OVDD (power), D12 VDD (power), D13 VDD (power), D14 GND (power), D18 Reserved, E2 Reserved, F1 GND (power), F23 GND (power), G10 OVDD (power), G15 OVDD (power), H3 Reserved, H9 OVDD (power), H10 OVDD (power), H14 OVDD (power), H15 OVDD (power), J7 OVDD (power), J8 OVDD (power), J10 OVDD (power), J11 GND (power) "Thermal Balls", J13 GND (power) "Thermal Balls", J14 OVDD (power), J16 OVDD (power), J17 OVDD (power), K3 OVDD (power), K4 OVDD (power), K8 OVDD (power), K9 VDD (power), K11 GND (power) "Thermal Balls", K12 GND (power) "Thermal Balls", K13 GND (power) "Thermal Balls", K15 VDD (power), K16 OVDD (power), L1 GND (power), L4 GND (power), L9 VDD (power), L10 VDD (power), L11 GND (power) "Thermal Balls", L12 GND (power) "Thermal Balls", L13 GND (power) "Thermal Balls", L14 VDD (power), L15 VDD (power), L20 VDD (power), L23 OVDD (power), M4 GND (power), M10 VDD (power), M11 GND (power) "Thermal Balls", M12 GND (power) "Thermal Balls", M13 GND (power) "Thermal Balls", M14 VDD (power), M20 GND (power), N1 OVDD (power), N4 VDD (power), N9 VDD (power), N10 VDD (power), N11 GND (power) "Thermal Balls", N12 GND (power) "Thermal Balls", N13 GND (power) "Thermal Balls", N14 VDD (power), N15 VDD (power), N20 GND (power), N23 GND (power), P8 OVDD (power), P9 VDD (power), P11 GND (power) "Thermal Balls", P12 GND (power) "Thermal Balls", P13 GND (power) "Thermal Balls", P15 VDD (power), P16 OVDD (power), P20 OVDD (power), P21 OVDD (power), R7 OVDD (power), R8 OVDD (power), R10 OVDD (power), R11 GND (power), R13 GND (power) "Thermal Balls", R14 OVDD (power), R16 OVDD (power), R17 OVDD (power), T9 OVDD (power), T10 OVDD (power), T14 OVDD (power), T15 OVDD (power), T21 Reserved, U9 OVDD (power), U14 OVDD (power), V1 GND (power) "Thermal Balls", V20 Reserved, V21 Reserved, V23 GND (power), W22 Reserved, Y5 GND (power), Y10 GND (power), Y11 VDD (power), Y12 VDD (power), Y13 OVDD (power)

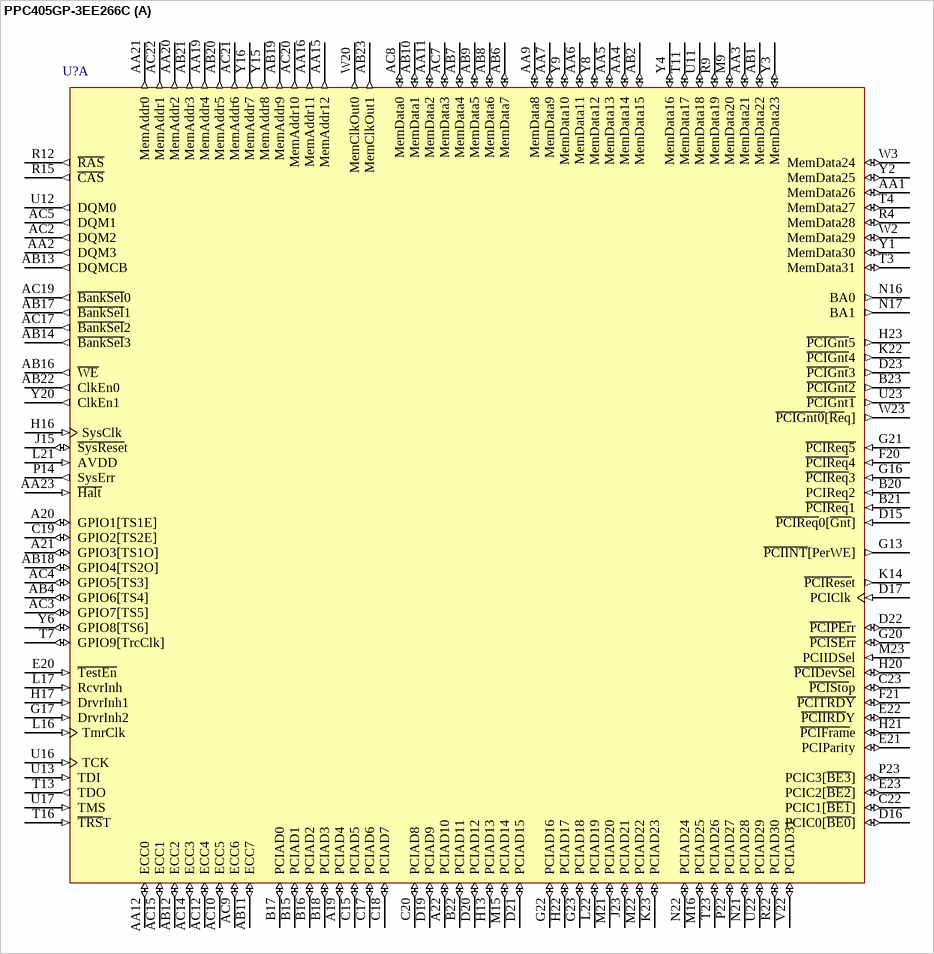
[diagram p62: symbol PPC405GP-3EE266C]

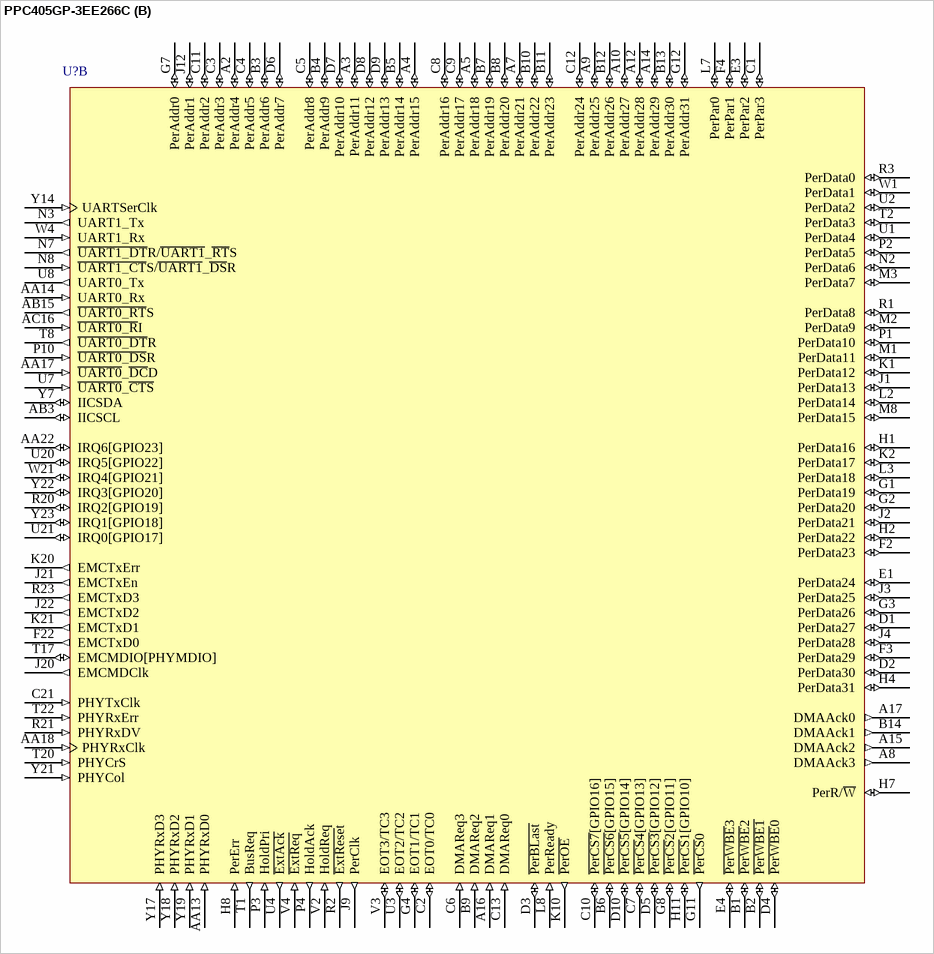
[diagram p63: symbol PPC405GP-3EE266C]

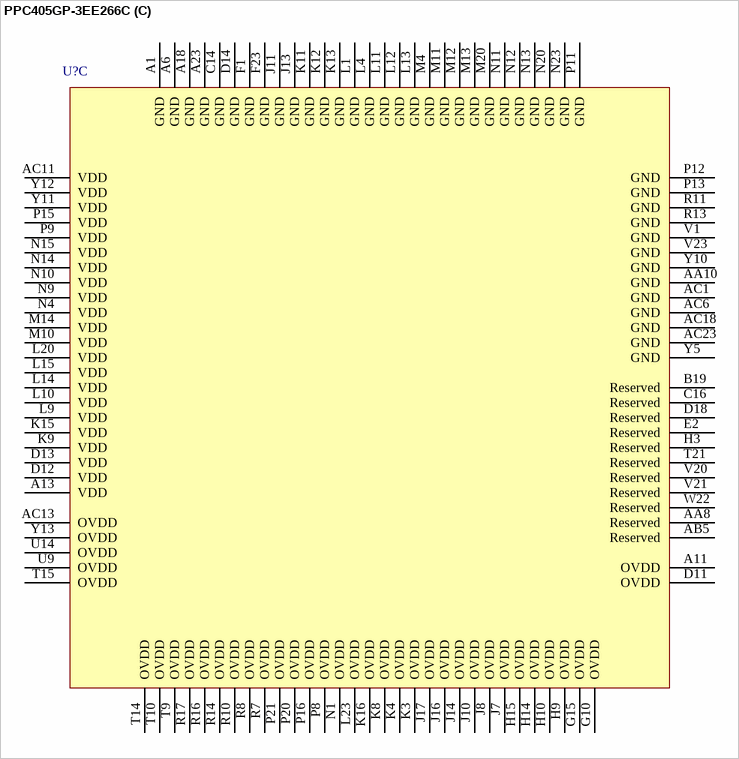
[diagram p64: symbol PPC405GP-3EE266C]

## PPC405GP-3EE266C
designator U?
PowerPC 405GP Embedded Processor, 266MHz, 25mm, 413 Ball E-PBGA; Published: 6-Oct-2005; LatestRevisionDate: 13-Apr-2006; LatestRevisionNote: IPC-7351 Footprint Added.; DatasheetVersion: rev2.01, Jan-2005; PackageVersion: Jan-2005; PackageReference: E-PBGA413; Publisher: Altium Limited; PackageDescription: 413-Ball Enhanced Plastic Ball Grid Array; ComponentLink1Description: Manufacturer Link; ComponentLink1URL: http://www.amcc.com/; ComponentLink2Description: Datasheet; ComponentLink2URL: https://www.amcc.com/MyAMCC/retrieveDocument/PowerPC/405GP_GPR/PPC405GP_DS2004__v2_01.pdf
footprint E-PBGA413 (BGA, 413-Leads, Body 25x25mm, Pitch 1mm)
3D model PPC405GP-E-PBGA413 (413-Ball Enhanced Plastic Ball Grid Array)
part A pins: A19 PCIAD4 (io), A20 GPIO1[TS1E] (io), A21 GPIO3[TS1O] (io), A22 PCIAD10 (io), AA1 MemData26 (io), AA2 DQM3 (out), AA3 MemData21 (io), AA4 MemData14 (io), AA5 MemData13 (io), AA6 MemData11 (io), AA7 MemData9 (io), AA9 MemData8 (io), AA11 MemData2 (io), AA12 ECC0 (io), AA15 MemAddr12 (out), AA16 MemAddr11 (out), AA19 MemAddr4 (out), AA20 MemAddr2 (out), AA21 MemAddr0 (out), AA23 ~{Halt} (in), AB1 MemData22 (io), AB2 MemData15 (io), AB4 GPIO6[TS4] (io), AB6 MemData7 (io), AB7 MemData4 (io), AB8 MemData6 (io), AB9 MemData5 (io), AB10 MemData1 (io), AB11 ECC7 (io), AB12 ECC2 (io), AB13 DQMCB (out), AB14 ~{BankSel}3 (out), AB16 ~{WE} (out), AB17 ~{BankSel}1 (out), AB18 GPIO4[TS2O] (io), AB19 MemAddr9 (out), AB20 MemAddr5 (out), AB21 MemAddr3 (out), AB22 ClkEn0 (out), AB23 MemClkOut1 (out), AC2 DQM2 (out), AC3 GPIO7[TS5] (io), AC4 GPIO5[TS3] (io), AC5 DQM1 (out), AC7 MemData3 (io), AC8 MemData0 (io), AC9 ECC6 (io), AC10 ECC5 (io), AC12 ECC4 (io), AC14 ECC3 (io), AC15 ECC1 (io), AC17 ~{BankSel}2 (out), AC19 ~{BankSel}0 (out), AC20 MemAddr10 (out), AC21 MemAddr6 (out), AC22 MemAddr1 (out), B15 PCIAD1 (io), B16 PCIAD2 (io), B17 PCIAD0 (io), B18 PCIAD3 (io), B20 PCIReq2 (in), B21 ~{PCIReq}1 (in), B22 PCIAD11 (io), B23 ~{PCIGnt2} (out), C15 PCIAD5 (io), C17 PCIAD6 (io), C18 PCIAD7 (io), C19 GPIO2[TS2E] (io), C20 PCIAD8 (io), C22 PCIC1[~{BE1}] (io), C23 ~{PCISto}p (io), D15 ~{PCIReq}0[~{Gnt}] (in), D16 PCIC0[~{BE0}] (io), D17 PCIClk (in), D19 PCIAD9 (io), D20 PCIAD12 (io), D21 PCIAD15 (io), D22 ~{PCIPEr}r (io), D23 ~{PCIGnt}3 (out), E20 ~{TestEn} (in), E21 PCIParity (io), E22 ~{PCIIRD}Y (io), E23 PCIC2[~{BE2}] (io), F20 ~{PCIReq}4 (in), F21 ~{PCITRDY} (io), G13 ~{PCIINT}[PerWE] (out), G16 ~{PCIReq}3 (in), G17 DrvrInh2 (in), G20 ~{PCISErr} (io), G21 ~{PCIReq5} (in), G22 PCIAD16 (io), G23 PCIAD18 (io), H13 PCIAD13 (io), H16 SysClk (in), H17 DrvrInh1 (in), H20 ~{PCIDevSe}l (io), H21 ~{PCIFram}e (io), H22 PCIAD17 (io), H23 ~{PCIGnt}5 (out), J15 ~{SysRese}t (io), J23 PCIAD21 (io), K14 ~{PCIRese}t (out), K22 ~{PCIGnt}4 (out), K23 PCIAD23 (io), L16 TmrClk (in), L17 RcvrInh (in), L21 AVDD (in), L22 PCIAD19 (io), M9 MemData20 (io), M15 PCIAD14 (io), M16 PCIAD25 (io), M21 PCIAD20 (io), M22 PCIAD22 (io), M23 PCIIDSel (in), N16 BA0 (out), N17 BA1 (out), N21 PCIAD28 (io), N22 PCIAD24 (io), P14 SysErr (out), P22 PCIAD27 (io), P23 PCIC3[~{BE3}] (io), R4 MemData28 (io), R9 MemData19 (io), R12 ~{RAS} (out), R15 ~{CAS} (out), R22 PCIAD30 (io), T3 MemData31 (io), T4 MemData27 (io), T7 GPIO9[TrcClk] (io), T11 MemData17 (io), T13 TDO (out), T16 ~{TRS}T (in), T23 PCIAD26 (io), U11 MemData18 (io), U12 DQM0 (out), U13 TDI (in), U16 TCK (in), U17 TMS (in), U22 PCIAD29 (io), U23 ~{PCIGnt1} (out), V22 PCIAD31 (io), W2 MemData29 (io), W3 MemData24 (io), W20 MemClkOut0 (out), W23 ~{PCIGnt0}[~{Re}q] (out), Y1 MemData30 (io), Y2 MemData25 (io), Y3 MemData23 (io), Y4 MemData16 (io), Y6 GPIO8[TS6] (io), Y8 MemData12 (io), Y9 MemData10 (io), Y15 MemAddr8 (out), Y16 MemAddr7 (out), Y20 ClkEn1 (out)
part B pins: A2 PerAddr4 (io), A3 PerAddr11 (io), A4 PerAddr15 (io), A5 PerAddr18 (io), A7 PerAddr21 (io), A8 DMAAck3 (out), A9 PerAddr25 (io), A10 PerAddr27 (io), A12 PerAddr28 (io), A14 PerAddr29 (io), A15 DMAAck2 (out), A16 DMAReq1 (in), A17 DMAAck0 (out), AA13 PHYRxD0 (in), AA14 UART0_Rx (in), AA17 ~{UART0}_~{DC}D (in), AA18 PHYRxClk (in), AA22 IRQ6[GPIO23] (io), AB3 IICSCL (io), AB15 ~{UART0_RT}S (out), AC16 ~{UART0_R}I (in), B1 ~{PerWBE}2 (io), B2 ~{PerWBE1} (io), B3 PerAddr6 (io), B4 PerAddr9 (io), B5 PerAddr14 (io), B6 ~{PerCS6}[GPIO15] (io), B7 PerAddr19 (io), B8 PerAddr20 (io), B9 DMAReq2 (in), B10 PerAddr22 (io), B11 PerAddr23 (io), B12 PerAddr26 (io), B13 PerAddr30 (io), B14 DMAAck1 (out), C1 PerPar3 (io), C2 EOT0/TC0 (io), C3 PerAddr3 (io), C4 PerAddr5 (io), C5 PerAddr8 (io), C6 DMAReq3 (in), C7 ~{PerCS}4[GPIO13] (io), C8 PerAddr16 (io), C9 PerAddr17 (io), C10 ~{PerCS7}[GPIO16] (io), C11 PerAddr2 (io), C12 PerAddr24 (io), C13 DMAReq0 (in), C21 PHYTxClk (in), D1 PerData27 (io), D2 PerData30 (io), D3 ~{PerBLast} (io), D4 ~{PerWBE}0 (io), D5 ~{PerCS3}[GPIO12] (io), D6 PerAddr7 (io), D7 PerAddr10 (io), D8 PerAddr12 (io), D9 PerAddr13 (io), D10 ~{PerCS5}[GPIO14] (io), E1 PerData24 (io), E3 PerPar2 (io), E4 ~{PerWBE}3 (io), F2 PerData23 (io), F3 PerData29 (io), F4 PerPar1 (io), F22 EMCTxD0 (out), G1 PerData19 (io), G2 PerData20 (io), G3 PerData26 (io), G4 EOT1/TC1 (io), G7 PerAddr0 (io), G8 ~{PerCS}2[GPIO11] (io), G11 ~{PerCS}0 (out), G12 PerAddr31 (io), H1 PerData16 (io), H2 PerData22 (io), H4 PerData31 (io), H7 PerR/~{W} (io), H8 PerErr (in), H11 ~{PerCS}1[GPIO10] (io), J1 PerData13 (io), J2 PerData21 (io), J3 PerData25 (io), J4 PerData28 (io), J9 PerClk (out), J12 PerAddr1 (io), J20 EMCMDClk (out), J21 EMCTxEn (out), J22 EMCTxD2 (out), K1 PerData12 (io), K2 PerData17 (io), K10 ~{PerOE} (out), K20 EMCTxErr (out), K21 EMCTxD1 (out), L2 PerData14 (io), L3 PerData18 (io), L7 PerPar0 (io), L8 PerReady (in), M1 PerData11 (io), M2 PerData9 (io), M3 PerData7 (io), M8 PerData15 (io), N2 PerData6 (io), N3 UART1_Tx (out), N7 ~{UART1_DT}R/~{UART1}_~{RT}S (out), N8 ~{UART1_CT}S/~{UART1}_~{DS}R (in), P1 PerData10 (io), P2 PerData5 (io), P3 HoldPri (in), P4 HoldAck (out), P10 ~{UART0_DS}R (in), R1 PerData8 (io), R2 ~{ExtRese}t (out), R3 PerData0 (io), R20 IRQ2[GPIO19] (io), R21 PHYRxDV (in), R23 EMCTxD3 (out), T1 BusReq (out), T2 PerData3 (io), T8 ~{UART0_DT}R (out), T17 EMCMDIO[PHYMDIO] (io), T20 PHYCrS (in), T22 PHYRxErr (in), U1 PerData4 (io), U2 PerData2 (io), U3 EOT2/TC2 (io), U4 ~{ExtAck} (out), U7 ~{UART0}_~{CTS} (in), U8 UART0_Tx (out), U20 IRQ5[GPIO22] (io), U21 IRQ0[GPIO17] (io), V2 HoldReq (in), V3 EOT3/TC3 (io), V4 ~{ExtReq} (in), W1 PerData1 (io), W4 UART1_Rx (in), W21 IRQ4[GPIO21] (io), Y7 IICSDA (io), Y14 UARTSerClk (in), Y17 PHYRxD3 (in), Y18 PHYRxD2 (in), Y19 PHYRxD1 (in), Y21 PHYCol (in), Y22 IRQ3[GPIO20] (io), Y23 IRQ1[GPIO18] (io)
part C pins: A1 GND (power), A6 GND (power), A11 OVDD (power), A13 VDD (power), A18 GND (power), A23 GND (power), AA8 Reserved, AA10 GND (power), AB5 Reserved, AC1 GND (power), AC6 GND (power), AC11 VDD (power), AC13 OVDD (power), AC18 GND (power), AC23 GND (power), B19 Reserved, C14 GND (power), C16 Reserved, D11 OVDD (power), D12 VDD (power), D13 VDD (power), D14 GND (power), D18 Reserved, E2 Reserved, F1 GND (power), F23 GND (power), G10 OVDD (power), G15 OVDD (power), H3 Reserved, H9 OVDD (power), H10 OVDD (power), H14 OVDD (power), H15 OVDD (power), J7 OVDD (power), J8 OVDD (power), J10 OVDD (power), J11 GND (power) "Thermal Balls", J13 GND (power) "Thermal Balls", J14 OVDD (power), J16 OVDD (power), J17 OVDD (power), K3 OVDD (power), K4 OVDD (power), K8 OVDD (power), K9 VDD (power), K11 GND (power) "Thermal Balls", K12 GND (power) "Thermal Balls", K13 GND (power) "Thermal Balls", K15 VDD (power), K16 OVDD (power), L1 GND (power), L4 GND (power), L9 VDD (power), L10 VDD (power), L11 GND (power) "Thermal Balls", L12 GND (power) "Thermal Balls", L13 GND (power) "Thermal Balls", L14 VDD (power), L15 VDD (power), L20 VDD (power), L23 OVDD (power), M4 GND (power), M10 VDD (power), M11 GND (power) "Thermal Balls", M12 GND (power) "Thermal Balls", M13 GND (power) "Thermal Balls", M14 VDD (power), M20 GND (power), N1 OVDD (power), N4 VDD (power), N9 VDD (power), N10 VDD (power), N11 GND (power) "Thermal Balls", N12 GND (power) "Thermal Balls", N13 GND (power) "Thermal Balls", N14 VDD (power), N15 VDD (power), N20 GND (power), N23 GND (power), P8 OVDD (power), P9 VDD (power), P11 GND (power) "Thermal Balls", P12 GND (power) "Thermal Balls", P13 GND (power) "Thermal Balls", P15 VDD (power), P16 OVDD (power), P20 OVDD (power), P21 OVDD (power), R7 OVDD (power), R8 OVDD (power), R10 OVDD (power), R11 GND (power), R13 GND (power) "Thermal Balls", R14 OVDD (power), R16 OVDD (power), R17 OVDD (power), T9 OVDD (power), T10 OVDD (power), T14 OVDD (power), T15 OVDD (power), T21 Reserved, U9 OVDD (power), U14 OVDD (power), V1 GND (power) "Thermal Balls", V20 Reserved, V21 Reserved, V23 GND (power), W22 Reserved, Y5 GND (power), Y10 GND (power), Y11 VDD (power), Y12 VDD (power), Y13 OVDD (power)

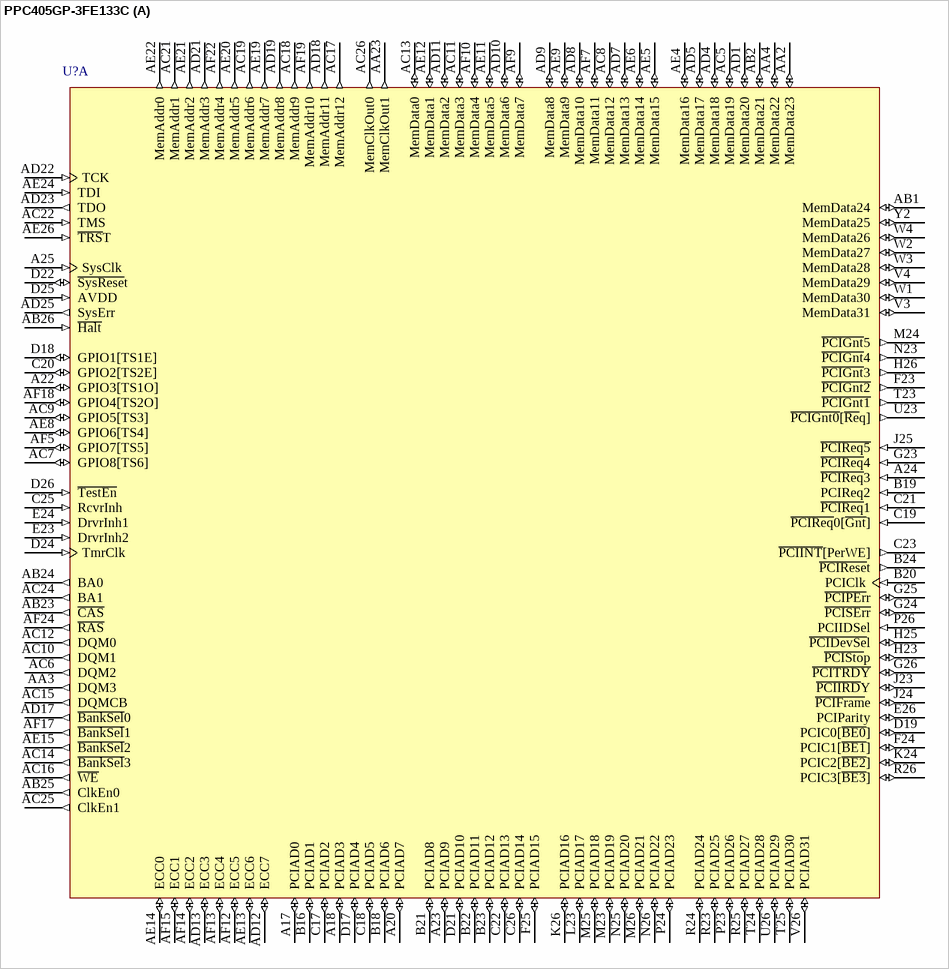
[diagram p65: symbol PPC405GP-3FE133C]

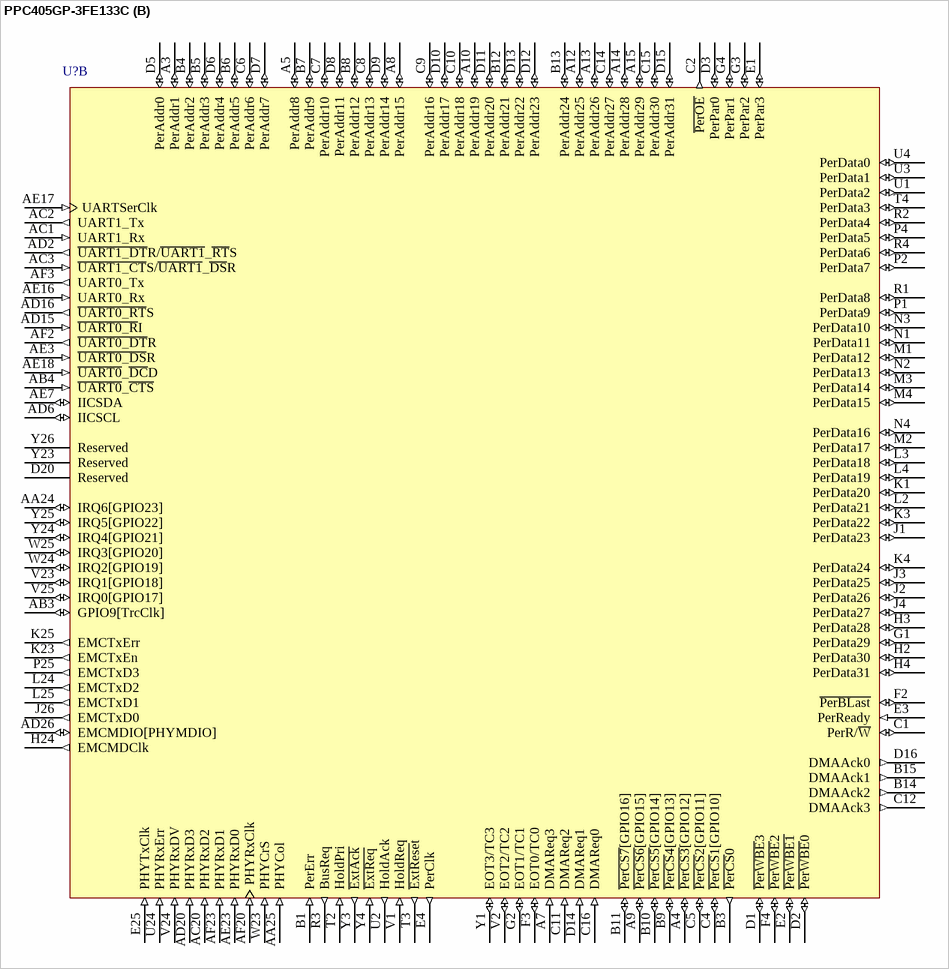
[diagram p66: symbol PPC405GP-3FE133C]

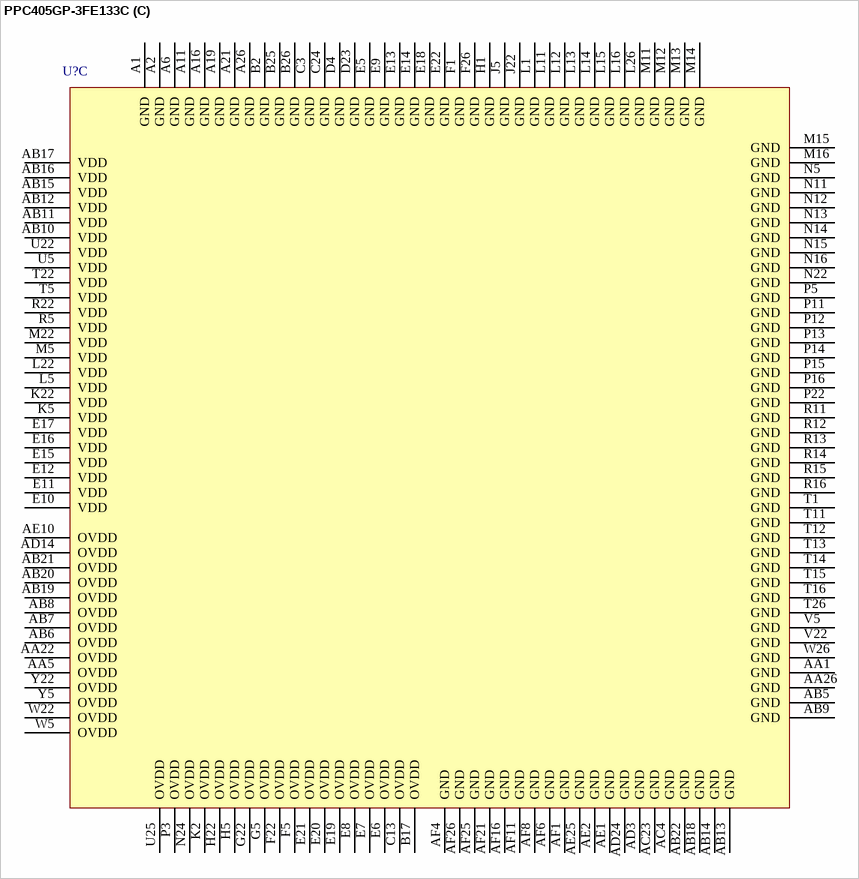
[diagram p67: symbol PPC405GP-3FE133C]

## PPC405GP-3FE133C
designator U?
PowerPC 405GP Embedded Processor, 133MHz, 35mm, 456 Ball E-PBGA, Pb-Free; Published: 6-Oct-2005; LatestRevisionDate: 13-Apr-2006; LatestRevisionNote: IPC-7351 Footprint Added.; DatasheetVersion: rev2.01, Jan-2005; PackageVersion: May-2006; PackageReference: E-PBGA456_75; Publisher: Altium Limited; PackageDescription: 456-Ball Enhanced Plastic Ball Grid Array (E-PBGA); ComponentLink1Description: Manufacturer Link; ComponentLink1URL: http://www.amcc.com/; ComponentLink2Description: Datasheet; ComponentLink2URL: https://www.amcc.com/MyAMCC/retrieveDocument/PowerPC/405GP_GPR/PPC405GP_DS2004__v2_01.pdf
footprint E-PBGA456_75 (BGA, 456-Leads, Body 35x35mm, Pitch 1.27mm)
3D model PPC405GP-E-PBGA456_75 (456-Ball Enhanced Plastic Ball Grid Array (E-PBGA))
part A pins: A17 PCIAD0 (io), A18 PCIAD3 (io), A20 PCIAD7 (io), A22 GPIO3[TS1O] (io), A23 PCIAD9 (io), A24 ~{PCIReq}3 (in), A25 SysClk (in), AA2 MemData23 (io), AA3 DQM3 (out), AA4 MemData22 (io), AA23 MemClkOut1 (out), AB1 MemData24 (io), AB2 MemData21 (io), AB23 ~{CAS} (out), AB24 BA0 (out), AB25 ClkEn0 (out), AB26 ~{Halt} (in), AC5 MemData19 (io), AC6 DQM2 (out), AC7 GPIO8[TS6] (io), AC8 MemData12 (io), AC9 GPIO5[TS3] (io), AC10 DQM1 (out), AC11 MemData3 (io), AC12 DQM0 (out), AC13 MemData0 (io), AC14 ~{BankSel}3 (out), AC15 DQMCB (out), AC16 ~{WE} (out), AC17 MemAddr12 (out), AC18 MemAddr9 (out), AC19 MemAddr6 (out), AC21 MemAddr1 (out), AC22 TMS (in), AC24 BA1 (out), AC25 ClkEn1 (out), AC26 MemClkOut0 (out), AD1 MemData20 (io), AD4 MemData18 (io), AD5 MemData17 (io), AD7 MemData13 (io), AD8 MemData10 (io), AD9 MemData8 (io), AD10 MemData6 (io), AD11 MemData2 (io), AD12 ECC7 (io), AD13 ECC3 (io), AD17 ~{BankSel}0 (out), AD18 MemAddr11 (out), AD19 MemAddr8 (out), AD21 MemAddr3 (out), AD22 TCK (in), AD23 TDO (out), AD25 SysErr (out), AE4 MemData16 (io), AE5 MemData15 (io), AE6 MemData14 (io), AE8 GPIO6[TS4] (io), AE9 MemData9 (io), AE11 MemData5 (io), AE12 MemData1 (io), AE13 ECC6 (io), AE14 ECC0 (io), AE15 ~{BankSel}2 (out), AE19 MemAddr7 (out), AE20 MemAddr5 (out), AE21 MemAddr2 (out), AE22 MemAddr0 (out), AE24 TDI (in), AE26 ~{TRS}T (in), AF5 GPIO7[TS5] (io), AF7 MemData11 (io), AF9 MemData7 (io), AF10 MemData4 (io), AF12 ECC5 (io), AF13 ECC4 (io), AF14 ECC2 (io), AF15 ECC1 (io), AF17 ~{BankSel}1 (out), AF18 GPIO4[TS2O] (io), AF19 MemAddr10 (out), AF22 MemAddr4 (out), AF24 ~{RAS} (out), B16 PCIAD1 (io), B18 PCIAD6 (io), B19 PCIReq2 (in), B20 PCIClk (in), B21 PCIAD8 (io), B22 PCIAD11 (io), B23 PCIAD12 (io), B24 ~{PCIRese}t (out), C17 PCIAD2 (io), C18 PCIAD5 (io), C19 ~{PCIReq}0[~{Gnt}] (in), C20 GPIO2[TS2E] (io), C21 ~{PCIReq}1 (in), C22 PCIAD13 (io), C23 ~{PCIINT}[PerWE] (out), C25 RcvrInh (in), C26 PCIAD14 (io), D17 PCIAD4 (io), D18 GPIO1[TS1E] (io), D19 PCIC0[~{BE0}] (io), D21 PCIAD10 (io), D22 ~{SysRese}t (io), D24 TmrClk (in), D25 AVDD (in), D26 ~{TestEn} (in), E23 DrvrInh2 (in), E24 DrvrInh1 (in), E26 PCIParity (io), F23 ~{PCIGnt2} (out), F24 PCIC1[~{BE1}] (io), F25 PCIAD15 (io), G23 ~{PCIReq}4 (in), G24 ~{PCISErr} (io), G25 ~{PCIPEr}r (io), G26 ~{PCITRDY} (io), H23 ~{PCISto}p (io), H25 ~{PCIDevSe}l (io), H26 ~{PCIGnt}3 (out), J23 ~{PCIIRD}Y (io), J24 ~{PCIFram}e (io), J25 ~{PCIReq5} (in), K24 PCIC2[~{BE2}] (io), K26 PCIAD16 (io), L23 PCIAD17 (io), M23 PCIAD19 (io), M24 ~{PCIGnt}5 (out), M25 PCIAD18 (io), M26 PCIAD21 (io), N23 ~{PCIGnt}4 (out), N25 PCIAD20 (io), N26 PCIAD22 (io), P23 PCIAD26 (io), P24 PCIAD23 (io), P26 PCIIDSel (in), R23 PCIAD25 (io), R24 PCIAD24 (io), R25 PCIAD27 (io), R26 PCIC3[~{BE3}] (io), T23 ~{PCIGnt1} (out), T24 PCIAD28 (io), T25 PCIAD30 (io), U23 ~{PCIGnt0}[~{Re}q] (out), U26 PCIAD29 (io), V3 MemData31 (io), V4 MemData29 (io), V26 PCIAD31 (io), W1 MemData30 (io), W2 MemData27 (io), W3 MemData28 (io), W4 MemData26 (io), Y2 MemData25 (io)
part B pins: A3 PerAddr1 (io), A4 ~{PerCS3}[GPIO12] (io), A5 PerAddr8 (io), A7 DMAReq3 (in), A8 PerAddr15 (io), A9 ~{PerCS6}[GPIO15] (io), A10 PerAddr19 (io), A12 PerAddr25 (io), A13 PerAddr26 (io), A14 PerAddr28 (io), A15 PerAddr29 (io), AA24 IRQ6[GPIO23] (io), AA25 PHYCol (in), AB3 GPIO9[TrcClk] (io), AB4 ~{UART0}_~{CTS} (in), AC1 UART1_Rx (in), AC2 UART1_Tx (out), AC3 ~{UART1_CT}S/~{UART1}_~{DS}R (in), AC20 PHYRxD2 (in), AD2 ~{UART1_DT}R/~{UART1}_~{RT}S (out), AD6 IICSCL (io), AD15 ~{UART0_R}I (in), AD16 ~{UART0_RT}S (out), AD20 PHYRxD3 (in), AD26 EMCMDIO[PHYMDIO] (io), AE3 ~{UART0_DS}R (in), AE7 IICSDA (io), AE16 UART0_Rx (in), AE17 UARTSerClk (in), AE18 ~{UART0}_~{DC}D (in), AE23 PHYRxD0 (in), AF2 ~{UART0_DT}R (out), AF3 UART0_Tx (out), AF20 PHYRxClk (in), AF23 PHYRxD1 (in), B1 PerErr (in), B3 ~{PerCS}0 (out), B4 PerAddr2 (io), B5 PerAddr3 (io), B6 PerAddr5 (io), B7 PerAddr9 (io), B8 PerAddr12 (io), B9 ~{PerCS}4[GPIO13] (io), B10 ~{PerCS5}[GPIO14] (io), B11 ~{PerCS7}[GPIO16] (io), B12 PerAddr21 (io), B13 PerAddr24 (io), B14 DMAAck2 (out), B15 DMAAck1 (out), C1 PerR/~{W} (io), C2 ~{PerOE} (out), C4 ~{PerCS}1[GPIO10] (io), C5 ~{PerCS}2[GPIO11] (io), C6 PerAddr6 (io), C7 PerAddr10 (io), C8 PerAddr13 (io), C9 PerAddr16 (io), C10 PerAddr18 (io), C11 DMAReq2 (in), C12 DMAAck3 (out), C14 PerAddr27 (io), C15 PerAddr30 (io), C16 DMAReq0 (in), D1 ~{PerWBE}3 (io), D2 ~{PerWBE}0 (io), D3 PerPar0 (io), D5 PerAddr0 (io), D6 PerAddr4 (io), D7 PerAddr7 (io), D8 PerAddr11 (io), D9 PerAddr14 (io), D10 PerAddr17 (io), D11 PerAddr20 (io), D12 PerAddr23 (io), D13 PerAddr22 (io), D14 DMAReq1 (in), D15 PerAddr31 (io), D16 DMAAck0 (out), D20 Reserved, E1 PerPar3 (io), E2 ~{PerWBE1} (io), E3 PerReady (in), E4 PerClk (out), E25 PHYTxClk (in), F2 ~{PerBLast} (io), F3 EOT0/TC0 (io), F4 ~{PerWBE}2 (io), G1 PerData29 (io), G2 EOT1/TC1 (io), G3 PerPar2 (io), G4 PerPar1 (io), H2 PerData30 (io), H3 PerData28 (io), H4 PerData31 (io), H24 EMCMDClk (out), J1 PerData23 (io), J2 PerData26 (io), J3 PerData25 (io), J4 PerData27 (io), J26 EMCTxD0 (out), K1 PerData20 (io), K3 PerData22 (io), K4 PerData24 (io), K23 EMCTxEn (out), K25 EMCTxErr (out), L2 PerData21 (io), L3 PerData18 (io), L4 PerData19 (io), L24 EMCTxD2 (out), L25 EMCTxD1 (out), M1 PerData12 (io), M2 PerData17 (io), M3 PerData14 (io), M4 PerData15 (io), N1 PerData11 (io), N2 PerData13 (io), N3 PerData10 (io), N4 PerData16 (io), P1 PerData9 (io), P2 PerData7 (io), P4 PerData5 (io), P25 EMCTxD3 (out), R1 PerData8 (io), R2 PerData4 (io), R3 BusReq (out), R4 PerData6 (io), T2 HoldPri (in), T3 ~{ExtRese}t (out), T4 PerData3 (io), U1 PerData2 (io), U2 HoldAck (out), U3 PerData1 (io), U4 PerData0 (io), U24 PHYRxErr (in), V1 HoldReq (in), V2 EOT2/TC2 (io), V23 IRQ1[GPIO18] (io), V24 PHYRxDV (in), V25 IRQ0[GPIO17] (io), W23 PHYCrS (in), W24 IRQ2[GPIO19] (io), W25 IRQ3[GPIO20] (io), Y1 EOT3/TC3 (io), Y3 ~{ExtAck} (out), Y4 ~{ExtReq} (in), Y23 Reserved, Y24 IRQ4[GPIO21] (io), Y25 IRQ5[GPIO22] (io), Y26 Reserved
part C pins: A1 GND (power), A2 GND (power), A6 GND (power), A11 GND (power), A16 GND (power), A19 GND (power), A21 GND (power), A26 GND (power), AA1 GND (power), AA5 OVDD (power), AA22 OVDD (power), AA26 GND (power), AB5 GND (power), AB6 OVDD (power), AB7 OVDD (power), AB8 OVDD (power), AB9 GND (power), AB10 VDD (power), AB11 VDD (power), AB12 VDD (power), AB13 GND (power), AB14 GND (power), AB15 VDD (power), AB16 VDD (power), AB17 VDD (power), AB18 GND (power), AB19 OVDD (power), AB20 OVDD (power), AB21 OVDD (power), AB22 GND (power), AC4 GND (power), AC23 GND (power), AD3 GND (power), AD14 OVDD (power), AD24 GND (power), AE1 GND (power), AE2 GND (power), AE10 OVDD (power), AE25 GND (power), AF1 GND (power), AF4 GND (power), AF6 GND (power), AF8 GND (power), AF11 GND (power), AF16 GND (power), AF21 GND (power), AF25 GND (power), AF26 GND (power), B2 GND (power), B17 OVDD (power), B25 GND (power), B26 GND (power), C3 GND (power), C13 OVDD (power), C24 GND (power), D4 GND (power), D23 GND (power), E5 GND (power), E6 OVDD (power), E7 OVDD (power), E8 OVDD (power), E9 GND (power), E10 VDD (power), E11 VDD (power), E12 VDD (power), E13 GND (power), E14 GND (power), E15 VDD (power), E16 VDD (power), E17 VDD (power), E18 GND (power), E19 OVDD (power), E20 OVDD (power), E21 OVDD (power), E22 GND (power), F1 GND (power), F5 OVDD (power), F22 OVDD (power), F26 GND (power), G5 OVDD (power), G22 OVDD (power), H1 GND (power), H5 OVDD (power), H22 OVDD (power), J5 GND (power), J22 GND (power), K2 OVDD (power), K5 VDD (power), K22 VDD (power), L1 GND (power), L5 VDD (power), L11 GND (power) "Thermal Balls", L12 GND (power) "Thermal Balls", L13 GND (power) "Thermal Balls", L14 GND (power) "Thermal Balls", L15 GND (power) "Thermal Balls", L16 GND (power) "Thermal Balls", L22 VDD (power), L26 GND (power), M5 VDD (power), M11 GND (power) "Thermal Balls", M12 GND (power) "Thermal Balls", M13 GND (power) "Thermal Balls", M14 GND (power) "Thermal Balls", M15 GND (power) "Thermal Balls", M16 GND (power) "Thermal Balls", M22 VDD (power), N5 GND (power), N11 GND (power) "Thermal Balls", N12 GND (power) "Thermal Balls", N13 GND (power) "Thermal Balls", N14 GND (power) "Thermal Balls", N15 GND (power) "Thermal Balls", N16 GND (power) "Thermal Balls", N22 GND (power), N24 OVDD (power), P3 OVDD (power), P5 GND (power), P11 GND (power) "Thermal Balls", P12 GND (power) "Thermal Balls", P13 GND (power) "Thermal Balls", P14 GND (power) "Thermal Balls", P15 GND (power) "Thermal Balls", P16 GND (power) "Thermal Balls", P22 GND (power), R5 VDD (power), R11 GND (power) "Thermal Balls", R12 GND (power) "Thermal Balls", R13 GND (power) "Thermal Balls", R14 GND (power) "Thermal Balls", R15 GND (power) "Thermal Balls", R16 GND (power) "Thermal Balls", R22 VDD (power), T1 GND (power), T5 VDD (power), T11 GND (power) "Thermal Balls", T12 GND (power) "Thermal Balls", T13 GND (power) "Thermal Balls", T14 GND (power) "Thermal Balls", T15 GND (power) "Thermal Balls", T16 GND (power) "Thermal Balls", T22 VDD (power), T26 GND (power), U5 VDD (power), U22 VDD (power), U25 OVDD (power), V5 GND (power), V22 GND (power), W5 OVDD (power), W22 OVDD (power), W26 GND (power), Y5 OVDD (power), Y22 OVDD (power)

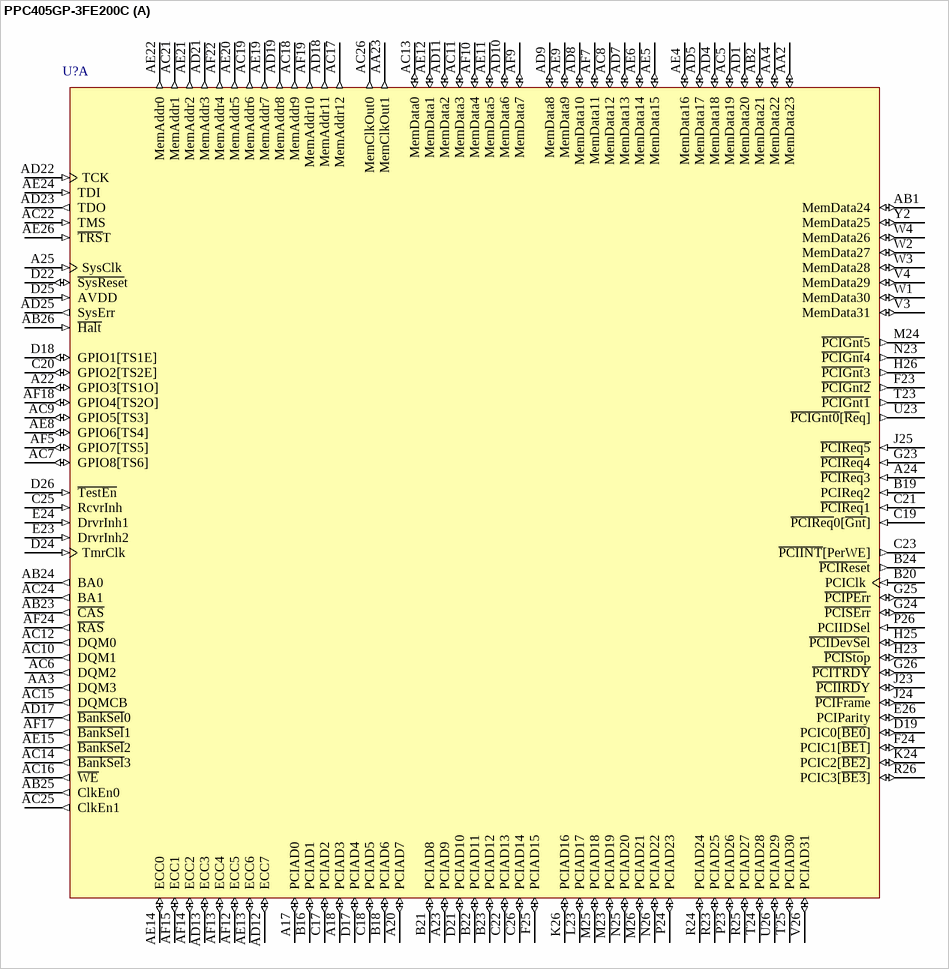
[diagram p68: symbol PPC405GP-3FE200C]

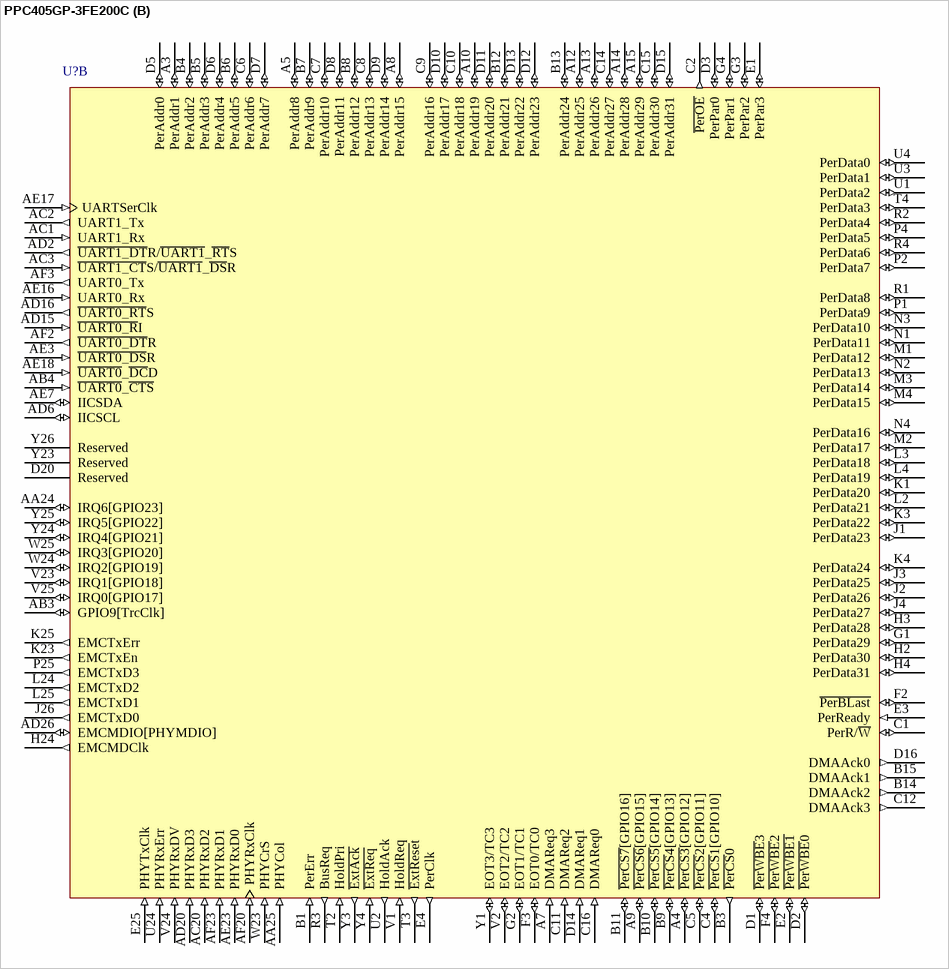
[diagram p69: symbol PPC405GP-3FE200C]

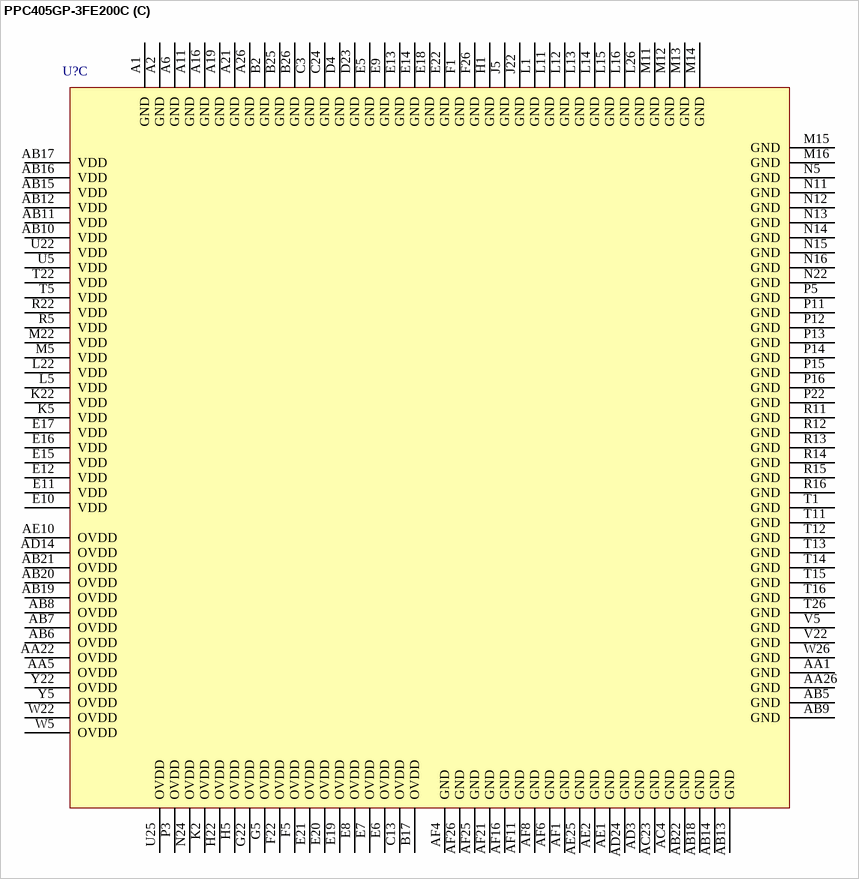
[diagram p70: symbol PPC405GP-3FE200C]